# Altium schematic symbol library carrot_lib.SchLib: 285 symbols (part 3 of 4)
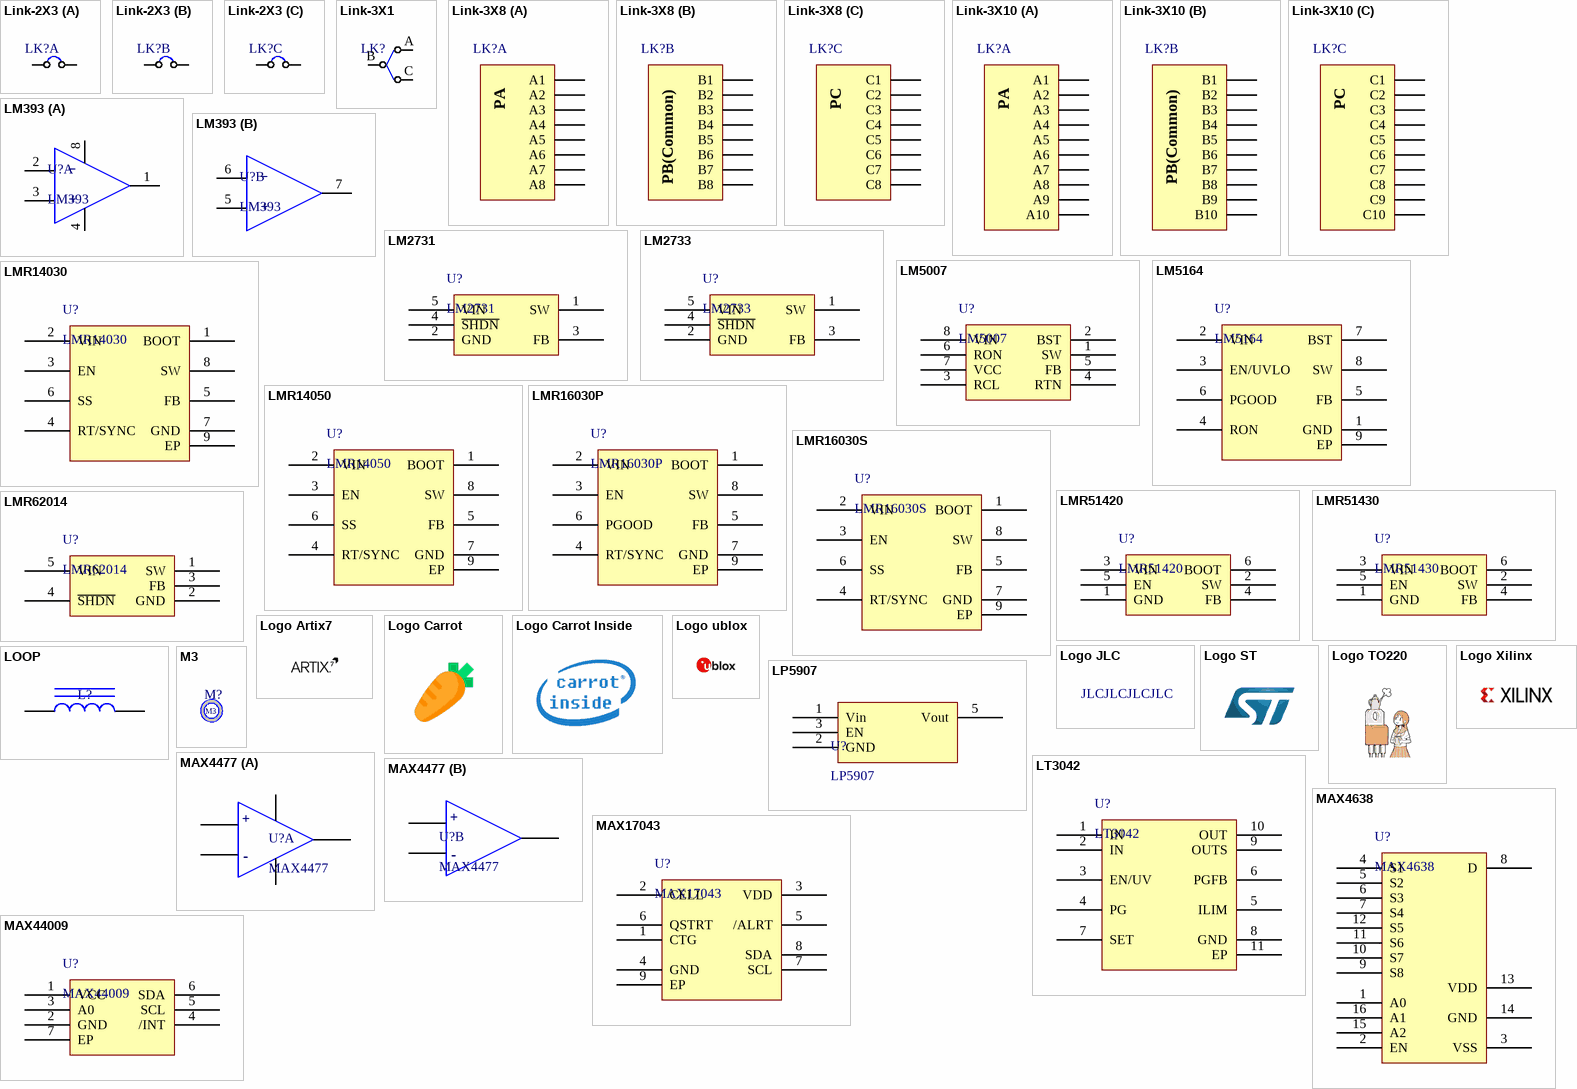
[diagram p16: symbols Link-2X3 to MAX44009]

## LMR51420
designator U?
LMR51420 SIMPLE SWITCHER® Power Converter 4.5-V to 36-V, 2-A, Synchronous Buck Converter in a SOT-23 Package
footprint LMR51420-SOT23-6 (SOT23, 6-Leads, Body 2.90x2.80mm, Pitch 0.95mm, IPC Medium Density)
pins: 1 GND "Ground pin Source terminal of low-side power NFET as well as the ground terminal for controller circuit.", 2 SW "Switch node connection between high-side NFET and low-side NFET.", 3 VIN "Input voltage supply pin. The drain terminal of high-side power NFET.", 4 FB "Converter feedback input. Connect to output voltage with feedback resistor divider.", 5 EN "Enable input control. Active high and must be pulled up to enable the device.", 6 BOOT "Supply input for the high-side NFET gate drive circuit. Connect a 0.1μF capacitor between VBST and SW pins."

## LMR51430
designator U?
LMR51430 SIMPLE SWITCHER® Power Converter 4.5-V to 36-V, 3-A, Synchronous Buck Converter in a SOT-23 Package
footprint LMR51430-SOT23-6 (SOT23, 6-Leads, Body 2.90x2.80mm, Pitch 0.95mm, IPC Medium Density)
pins: 1 GND "Ground pin Source terminal of low-side power NFET as well as the ground terminal for controller circuit.", 2 SW "Switch node connection between high-side NFET and low-side NFET.", 3 VIN "Input voltage supply pin. The drain terminal of high-side power NFET.", 4 FB "Converter feedback input. Connect to output voltage with feedback resistor divider.", 5 EN "Enable input control. Active high and must be pulled up to enable the device.", 6 BOOT "Supply input for the high-side NFET gate drive circuit. Connect a 0.1μF capacitor between VBST and SW pins."

## LMR62014
designator U?
LMR62014 SIMPLE SWITCHER® 20Vout, 1.4A Step-Up Voltage Regulator in SOT-23
footprint LMR62014-SOT23-5 (SOT23, 5-Leads, Body 2.90x2.80mm, Pitch 0.95mm, IPC Medium Density)
pins: 1 SW "Connect the inductor and the Schottky diode to this pin.", 2 GND "Ground", 3 FB "This is the feedback pin of the device.", 4 ~{SHDN} "This is the enable pin of the device.", 5 VIN "Supply voltage pin."

## Logo Artix7
designator LOGO?
footprint LOGO-ARTIX7

## Logo Carrot
designator LOGO?
footprint LOGO-CARROT

## Logo Carrot Inside
designator LOGO?
footprint LOGO-carrot-inside

## Logo JLC
designator LOGO?, comment JLC  (value not drawn)
footprint LOGO-JLC
text: JLCJLCJLCJLC

## Logo ST
designator LOGO?
footprint LOGO-ST

## Logo TO220
designator LOGO?
footprint LOGO-TO220

## Logo ublox
designator LOGO?
footprint LOGO-ublox

## Logo Xilinx
designator LOGO?
footprint LOGO-XILINX

## LOOP
designator L?
footprint LOOP_7X17
pins: 1, 2

## LP5907
designator U?
LP5907 250-mA, Ultra-Low-Noise, Low-IQ LDO
footprint LP5907-SOT-23-5 (SOT23, 5-Leads, Body 2.90x2.80mm, Pitch 0.95mm, IPC Medium Density)
pins: 1 Vin, 2 GND, 3 EN, 5 Vout

## LT3042
designator U?
20V, 200mA, Ultralow Noise,Ultrahigh PSRR RF Linear Regulator
footprint LT3042-MSOP10 (TSSOP, 10-Leads, Body 3.00x3.00mm, Pitch 0.50mm, Thermal Pad 1.88x1.68mm, IPC Medium Density)
pins: 1 IN "Input.", 2 IN "Input.", 3 EN/UV "Enable/UVLO.", 4 PG "Power Good.", 5 ILIM "Current Limit Programming Pin.", 6 PGFB "Power Good Feedback.", 7 SET "SET.", 8 GND "Ground.", 9 OUTS "Output Sense.", 10 OUT "Output.", 11 EP "Ground."

## M3
designator M?
footprint M3-3.2X5

## MAX4477
designator U?
Low-Noise, Low-Distortion, Wide-Band, Rail-to-Rail Op Amps
footprint MAX4477-SOIC8 (SOIC, 8-Leads, Body 4.90x3.90mm, Pitch 1.27mm, IPC Medium Density)
part A pins: 1 OUT A, 2 -IN A, 3 +IN A, 4 V-, 8 V+
part B pins: 5 +IN B, 6 -IN B, 7 OUT B
part A text: +; -
part B text: +; -

## MAX4638
designator U?
3.5Ω, Single 8:1 and Dual 4:1, Low-Voltage Analog Multiplexers
footprint MAX4638-TSSOP16 (TSOP, 16-Leads, Body 5.00x4.40mm, Pitch 0.65mm, IPC Medium Density)
pins: 1 A0 "Digital Input. Controls the configuration of the switch", 2 EN "Digital Input. Controls the configuration of the switch", 3 VSS "Most Negative Power Supply Pin in Dual-Supply Applications.", 4 S1 "Source Terminal.", 5 S2 "Source Terminal.", 6 S3 "Source Terminal.", 7 S4 "Source Terminal.", 8 D "Drain Terminal.", 9 S8 "Source Terminal.", 10 S7 "Source Terminal.", 11 S6 "Source Terminal.", 12 S5 "Source Terminal.", 13 VDD "Most Positive Power Supply Pin.", 14 GND "Ground (0 V) Reference.", 15 A2 "Digital Input.", 16 A1 "Digital Input."

## MAX17043
designator U?
1-Cell/2-Cell Fuel Gauge with ModelGauge and Low-Battery Alert
footprint MAX17043-TDFN8 (PSON, 8-Leads, Body 2.00x3.00mm, Pitch 0.50mm, Thermal Pad 1.63x1.64mm, IPC Medium Density)
pins: 1 CTG "Connect to Ground. Connect to VSS during normal operation.", 2 CELL "Battery Voltage Input. The voltage of the cell pack is measured through this pin.", 3 VDD "Power-Supply Input. 2.5V to 4.5V input range. Connect to system power through a decoupling network. Connect a 10nF typical decoupling capacitor close to pin.", 4 GND "Ground. Connect to the negative power rail of the system.", 5 /ALRT "Alert Output. Active-low interrupt signaling low state of charge. Connect to interrupt input of the system microprocessor.", 6 QSTRT "Quick-Start Input. Allows reset of the device through hardware. Connect to GND if not used.", 7 SCL "Serial Clock Input. Input only 2-wire clock line. Connect this pin to the CLOCK signal of the 2-wire interface. This pin has a 0.2µA typical pulldown to sense disconnection.", 8 SDA "Serial Data Input/Output. Open-drain 2-wire data line. Connect this pin to the DATA signal of the 2-wire interface. This pin has a 0.2µA typical pulldown to sense disconnection.", 9 EP "Exposed Pad (TDFN only). Connect to ground."

## MAX44009
designator U?
Industry’s Lowest-Power Ambient Light Sensor with ADC
footprint MAX44009-UTDFN6 (QFN, 6-Leads, Body 2.00x2.00mm, Pitch 0.65mm, Thermal Pad 0.65x1.35mm, IPC Medium Density)
pins: 1 VCC "Power Supply", 2 GND "Ground", 3 A0 "Address Select", 4 /INT "Interrupt Output. Use an external pullup resistor.", 5 SCL "I2C Clock Bus", 6 SDA "I2C Data Bus", 7 EP "Exposed Pad. Connect EP to ground."

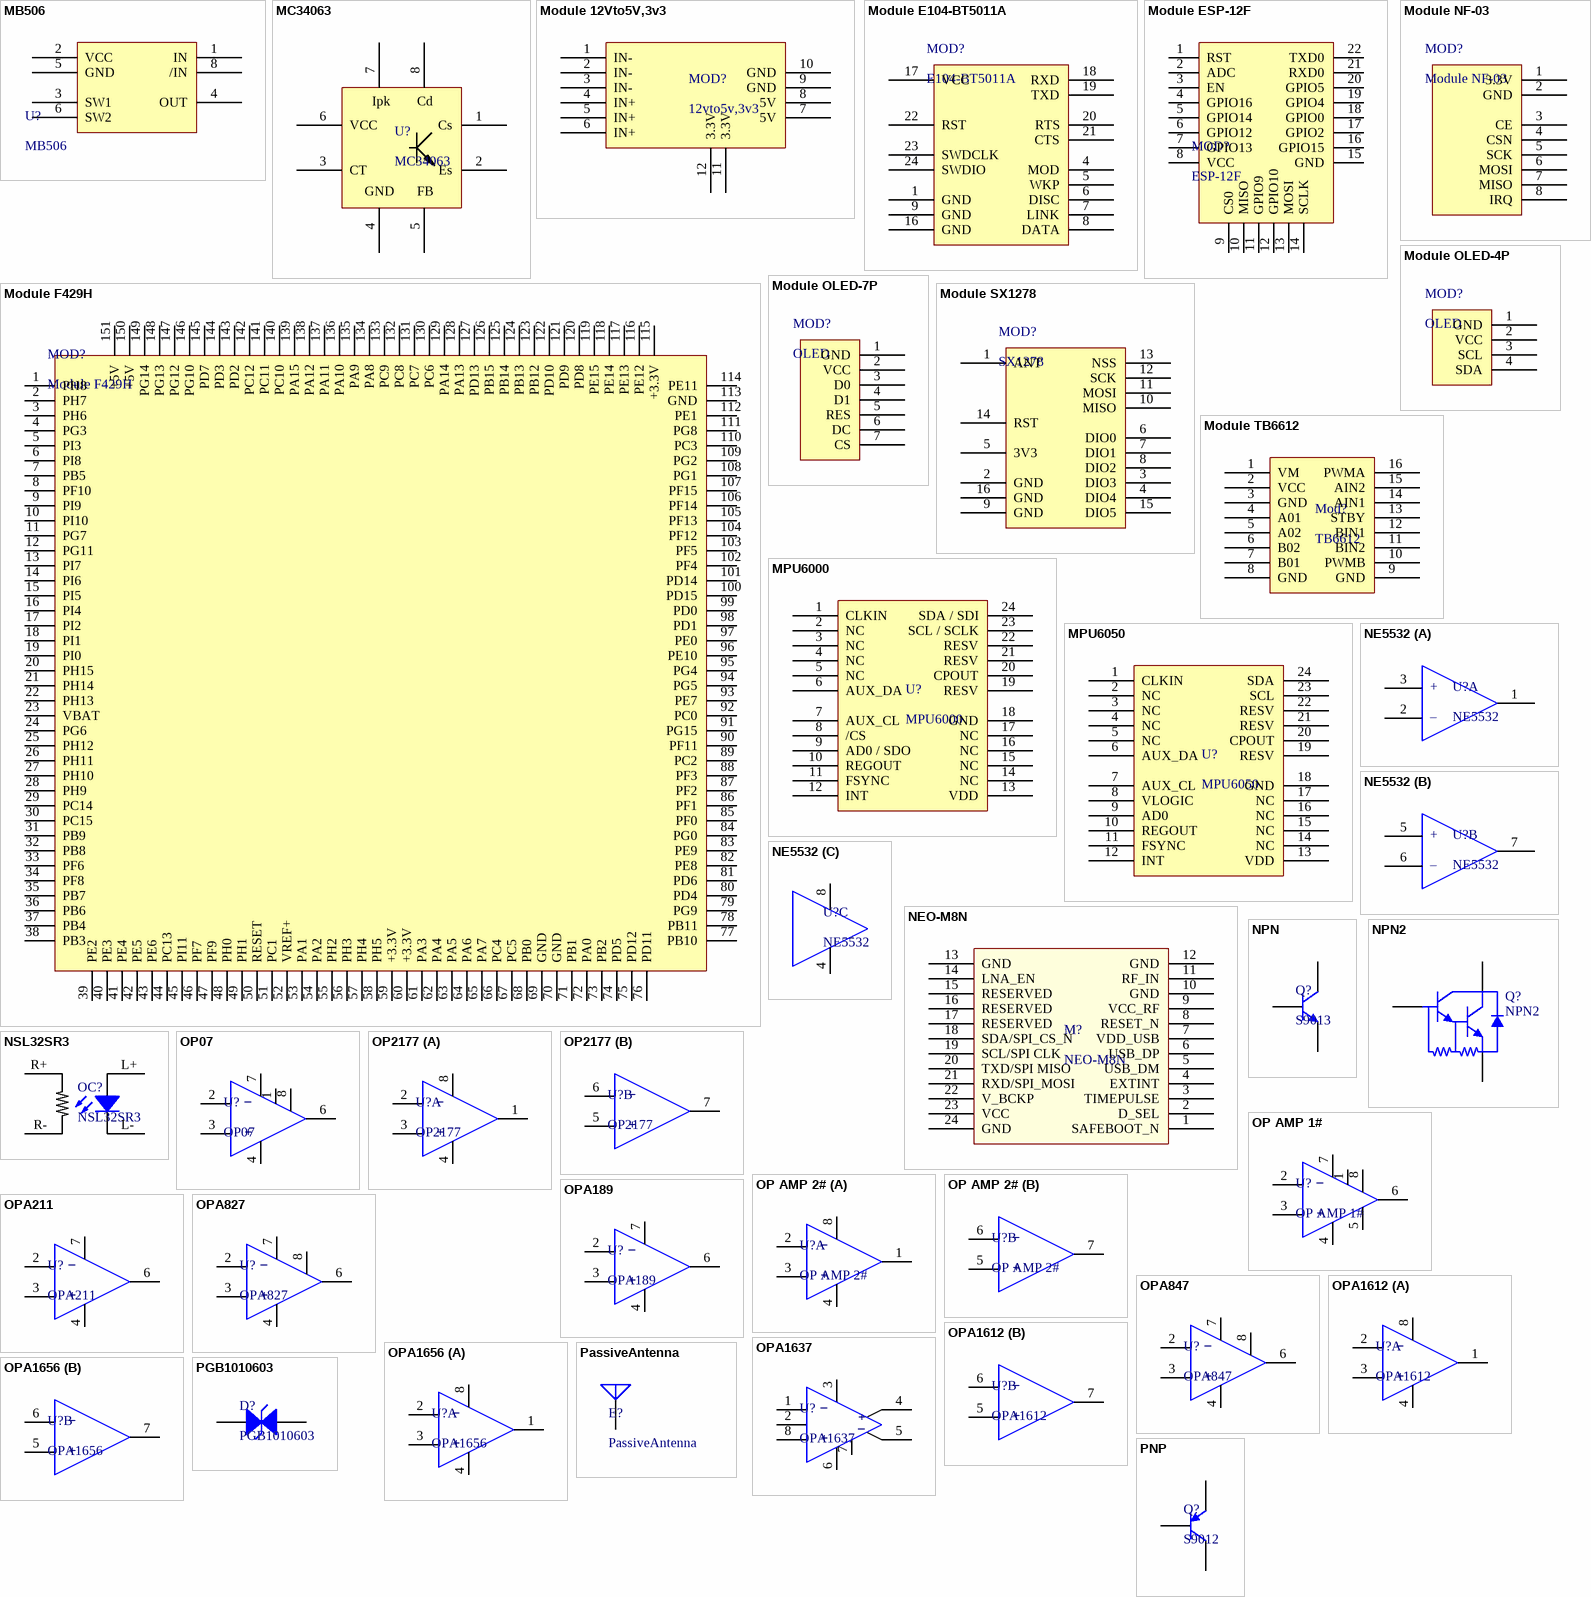
[diagram p9: symbols MB506 to PNP]

## MB506
designator U?
ULTRA HIGH FREQUENCY PRESCALER
footprint MB506-SOIC (SOIC, 8-Leads, Body 6.32x5.30mm, Pitch 1.27mm, IPC Medium Density)
pins: 1 IN, 2 VCC, 3 SW1, 4 OUT, 5 GND, 6 SW2, 8 /IN

## MC34063
designator U?
1.5A 峰值升压/降压/反向开关稳压器
footprint MC34063-DIP8
footprint MC34063-SOIC8 (SOP, 8-Leads, Body 4.90x3.90mm, Pitch 1.27mm, IPC Medium Density)
pins: 1 Cs, 2 Es, 3 CT, 4 GND, 5 FB, 6 VCC, 7 Ipk, 8 Cd

## Module 12Vto5V,3v3
designator MOD?, comment 12vto5v,3v3
Module 12Vto5V,3v3
footprint Module 12vto5v,3v3
pins: 1 IN-, 2 IN-, 3 IN-, 4 IN+, 5 IN+, 6 IN+, 7 5V, 8 5V, 9 GND, 10 GND, 11 3.3V, 12 3.3V

## Module E104-BT5011A
designator MOD?, comment E104-BT5011A
E104-BT5011A 是一款基于蓝牙协议 5.1 版本的串口转 BLE 蓝牙主从一体模块，体积小、功耗低，工作在 2.4GHz 频段。
footprint MODULE E104-BT5011A
footprint MODULE E104-BT5011A+
pins: 1 GND, 4 MOD, 5 WKP, 6 DISC, 7 LINK, 8 DATA, 9 GND, 16 GND, 17 VCC, 18 RXD, 19 TXD, 20 RTS, 21 CTS, 22 RST, 23 SWDCLK, 24 SWDIO

## Module ESP-12F
designator MOD?, comment ESP-12F
ESP8266 WIFI
footprint MODULE ESP-12F
footprint MODULE ESP-12F+
pins: 1 RST, 2 ADC, 3 EN, 4 GPIO16, 5 GPIO14, 6 GPIO12, 7 GPIO13, 8 VCC, 9 CS0, 10 MISO, 11 GPIO9, 12 GPIO10, 13 MOSI, 14 SCLK, 15 GND, 16 GPIO15, 17 GPIO2, 18 GPIO0, 19 GPIO4, 20 GPIO5, 21 RXD0, 22 TXD0

## Module F429H
designator MOD?
F429核心板 YuYou
footprint Module F429-H-DIP
footprint Module F429-H-DSMT
footprint Module F429-H-SMT
pins: 1 PH8, 2 PH7, 3 PH6, 4 PG3, 5 PI3, 6 PI8, 7 PB5, 8 PF10, 9 PI9, 10 PI10, 11 PG7, 12 PG11, 13 PI7, 14 PI6, 15 PI5, 16 PI4, 17 PI2, 18 PI1, 19 PI0, 20 PH15, 21 PH14, 22 PH13, 23 VBAT, 24 PG6, 25 PH12, 26 PH11, 27 PH10, 28 PH9, 29 PC14, 30 PC15, 31 PB9, 32 PB8, 33 PF6, 34 PF8, 35 PB7, 36 PB6, 37 PB4, 38 PB3, 39 PE2, 40 PE3, 41 PE4, 42 PE5, 43 PE6, 44 PC13, 45 PI11, 46 PF7, 47 PF9, 48 PH0, 49 PH1, 50 RESET, 51 PC1, 52 VREF+, 53 PA1, 54 PA2, 55 PH2, 56 PH3, 57 PH4, 58 PH5, 59 +3.3V, 60 +3.3V, 61 PA3, 62 PA4, 63 PA5, 64 PA6, 65 PA7, 66 PC4, 67 PC5, 68 PB0, 69 GND, 70 GND, 71 PB1, 72 PA0, 73 PB2, 74 PD5, 75 PD12, 76 PD11, 77 PB10, 78 PB11, 79 PG9, 80 PD4, 81 PD6, 82 PE8, 83 PE9, 84 PG0, 85 PF0, 86 PF1, 87 PF2, 88 PF3, 89 PC2, 90 PF11, 91 PG15, 92 PC0, 93 PE7, 94 PG5, 95 PG4, 96 PE10, 97 PE0, 98 PD1, 99 PD0, 100 PD15, 101 PD14, 102 PF4, 103 PF5, 104 PF12, 105 PF13, 106 PF14, 107 PF15, 108 PG1, 109 PG2, 110 PC3, 111 PG8, 112 PE1, 113 GND, 114 PE11, 115 +3.3V, 116 PE12, 117 PE13, 118 PE14, 119 PE15, 120 PD8, 121 PD9, 122 PD10, 123 PB12, 124 PB13, 125 PB14, 126 PB15, 127 PD13, 128 PA13, 129 PA14, 130 PC6, 131 PC7, 132 PC8, 133 PC9, 134 PA8, 135 PA9, 136 PA10, 137 PA11, 138 PA12, 139 PA15, 140 PC10, 141 PC11, 142 PC12, 143 PD2, 144 PD3, 145 PD7, 146 PG10, 147 PG12, 148 PG13, 149 PG14, 150 +5V, 151 +5V

## Module NF-03
designator MOD?
Si24R1 2.4GHz
footprint MODULE NF-03
pins: 1 3.3V, 2 GND, 3 CE, 4 CSN, 5 SCK, 6 MOSI, 7 MISO, 8 IRQ

## Module OLED-4P
designator MOD?, comment OLED
OLED显示模块
footprint MODULE OLED-4P-0.96 (0.96寸4脚OLED模块)
pins: 1 GND, 2 VCC, 3 SCL, 4 SDA

## Module OLED-7P
designator MOD?, comment OLED
OLED显示模块
footprint MODULE OLED-7P-0.96 (0.96寸7脚OLED模块)
footprint MODULE OLED-7P-0.96-HDR (0.96寸7脚OLED模块)
pins: 1 GND, 2 VCC, 3 D0, 4 D1, 5 RES, 6 DC, 7 CS

## Module SX1278
designator MOD?, comment SX1278
SX1278 LoRa
footprint MODULE SX1278
pins: 1 ANT, 2 GND, 3 DIO3, 4 DIO4, 5 3V3, 6 DIO0, 7 DIO1, 8 DIO2, 9 GND, 10 MISO, 11 MOSI, 12 SCK, 13 NSS, 14 RST, 15 DIO5, 16 GND

## Module TB6612
designator Mod?, comment TB6612
A driver IC for DC motor with output transistor in LD MOS structure with low ON-resistor.
footprint Module TB6612 (A driver IC for DC motor with output transistor in LD MOS structure with low ON-resistor.)
pins: 1 VM, 2 VCC, 3 GND, 4 A01, 5 A02, 6 B02, 7 B01, 8 GND, 9 GND, 10 PWMB, 11 BIN2, 12 BIN1, 13 STBY, 14 AIN1, 15 AIN2, 16 PWMA

## MPU6000
designator U?
footprint MPU60X0-QFN24 (QFN, 24-Leads, Body 4.00x4.00mm, Pitch 0.50mm, Thermal Pad 2.60x2.60mm, IPC Medium Density)
pins: 1 CLKIN "Optional external reference clock input. Connect to GND if unused.", 2 NC "Not internally connected. May be used for PCB trace routing.", 3 NC "Not internally connected. May be used for PCB trace routing.", 4 NC "Not internally connected. May be used for PCB trace routing.", 5 NC "Not internally connected. May be used for PCB trace routing.", 6 AUX_DA "I2C master serial data, for connecting to external sensors", 7 AUX_CL "I2C Master serial clock, for connecting to external sensors", 8 /CS "SPI chip select (0=SPI mode)", 9 AD0 / SDO "I2C Slave Address LSB (AD0); SPI serial data output (SDO)", 10 REGOUT "Regulator filter capacitor connection", 11 FSYNC "Frame synchronization digital input. Connect to GND if unused.", 12 INT "Interrupt digital output (totem pole or open-drain)", 13 VDD "Power supply voltage and Digital I/O supply voltage", 14 NC "Not internally connected. May be used for PCB trace routing.", 15 NC "Not internally connected. May be used for PCB trace routing.", 16 NC "Not internally connected. May be used for PCB trace routing.", 17 NC "Not internally connected. May be used for PCB trace routing.", 18 GND "Power supply ground", 19 RESV "Reserved. Do not connect.", 20 CPOUT "Charge pump capacitor connection", 21 RESV "Reserved. Do not connect.", 22 RESV "Reserved. Do not connect.", 23 SCL / SCLK "I2C serial clock (SCL); SPI serial clock (SCLK)", 24 SDA / SDI "I2C serial data (SDA); SPI serial data input (SDI)"

## MPU6050
designator U?
footprint MPU60X0-QFN24 (QFN, 24-Leads, Body 4.00x4.00mm, Pitch 0.50mm, Thermal Pad 2.60x2.60mm, IPC Medium Density)
pins: 1 CLKIN "Optional external reference clock input. Connect to GND if unused.", 2 NC "Not internally connected. May be used for PCB trace routing.", 3 NC "Not internally connected. May be used for PCB trace routing.", 4 NC "Not internally connected. May be used for PCB trace routing.", 5 NC "Not internally connected. May be used for PCB trace routing.", 6 AUX_DA "I2C master serial data, for connecting to external sensors", 7 AUX_CL "I2C Master serial clock, for connecting to external sensors", 8 VLOGIC "Digital I/O supply voltage", 9 AD0 "I2C Slave Address LSB (AD0)", 10 REGOUT "Regulator filter capacitor connection", 11 FSYNC "Frame synchronization digital input. Connect to GND if unused.", 12 INT "Interrupt digital output (totem pole or open-drain)", 13 VDD "Power supply voltage and Digital I/O supply voltage", 14 NC "Not internally connected. May be used for PCB trace routing.", 15 NC "Not internally connected. May be used for PCB trace routing.", 16 NC "Not internally connected. May be used for PCB trace routing.", 17 NC "Not internally connected. May be used for PCB trace routing.", 18 GND "Power supply ground", 19 RESV "Reserved. Do not connect.", 20 CPOUT "Charge pump capacitor connection", 21 RESV "Reserved. Do not connect.", 22 RESV "Reserved. Do not connect.", 23 SCL "I2C serial clock (SCL)", 24 SDA "I2C serial data (SDA)"

## NE5532
designator U?
NE5532x, SA5532x Dual Low-Noise Operational Amplifiers
footprint NE5532-SOIC8 (SOIC, 8-Leads, Body 4.90x3.90mm, Pitch 1.27mm, IPC Medium Density)
part A pins: 1 OUT A, 2 -IN A, 3 +IN A
part B pins: 5 +IN B, 6 -IN B, 7 OUT B
part C pins: 4 V-, 8 V+
part A text: +; –
part B text: +; –

## NEO-M8N
designator M?
footprint NEO-M8N (u-blox NEO GNSS module)
pins: 1 SAFEBOOT_N, 2 D_SEL, 3 TIMEPULSE, 4 EXTINT, 5 USB_DM, 6 USB_DP, 7 VDD_USB, 8 RESET_N, 9 VCC_RF, 10 GND, 11 RF_IN, 12 GND, 13 GND, 14 LNA_EN, 15 RESERVED, 16 RESERVED, 17 RESERVED, 18 SDA/SPI_CS_N, 19 SCL/SPI CLK, 20 TXD/SPI MISO, 21 RXD/SPI_MOSI, 22 V_BCKP, 23 VCC, 24 GND

## NPN
designator Q?, comment S9013
NPN General Purpose Amplifier
footprint SOT-23 (SOT23, 3-Leads, Body 2.9x1.3mm, Pitch 0.95mm, Lead Span 2.5mm, IPC High Density)
footprint TO-92 (TO, Flat Index; 3 In-Line, Axial Leads; Body Dia. 4.5mm; Leads 0.51 x 0.48 mm (max))
footprint NPN-TO92-EBC (TO, Flat Index; 3 In-Line, Axial Leads; Body Dia. 4.5mm; Leads 0.51 x 0.48 mm (max))
footprint NPN-TO92-CBE (TO, Flat Index; 3 In-Line, Axial Leads; Body Dia. 4.5mm; Leads 0.51 x 0.48 mm (max))
pins: B, C, E

## NPN2
designator Q?
NPN Darlington Bipolar Transistor
footprint NPN-TO-252-BCE (TO-252/DPAK)
pins: B, C, E

## NSL32SR3
designator OC?
This optocoupler, NSL-32SR3, consists of an LED input optically coupled to a photocell. The photocell resistance is high when the LED current is “off” and low resistance when the LED current is “on”.
footprint NSL32SR3
pins: L+, L-, R+, R-

## OP07
designator U?
footprint DIP8-300mil (DIP8,W=300mil)
footprint OP07-SOIC8 (SOIC, 8-Leads, Body 4.90x3.90mm, Pitch 1.27mm, IPC Medium Density)
pins: 1 OFFSET NULL, 2 -IN, 3 +IN, 4 -Vs, 6 OUTPUT, 7 +Vs, 8 OFFSET NULL
text: –; +

## OP2177
designator U?
Precision Low Noise, Low Input Bias Current Operational Amplifiers
footprint OP2177-SOIC8 (SOIC, 8-Leads, Body 4.90x3.90mm, Pitch 1.27mm, IPC Medium Density)
part A pins: 1 OUT A, 2 -IN A, 3 +IN A, 4 -Vs, 8 +Vs
part B pins: 5 +IN B, 6 -IN B, 7 OUT B
part A text: –; +
part B text: –; +

## OP AMP 1#
designator U?
Universal Operational Amplifiers.
footprint OPAMP-SOIC8 (SOIC, 8-Leads, Body 4.90x3.90mm, Pitch 1.27mm, IPC Medium Density)
pins: 1 OFFSET NULL, 2 -IN, 3 +IN, 4 -Vs, 5 NC, 6 OUTPUT, 7 +Vs, 8 OFFSET NULL
text: –; +

## OP AMP 2#
designator U?
Universal Operational Amplifiers.
footprint OPAMP-SOIC8 (SOIC, 8-Leads, Body 4.90x3.90mm, Pitch 1.27mm, IPC Medium Density)
part A pins: 1 OUT A, 2 -IN A, 3 +IN A, 4 -Vs, 8 +Vs
part B pins: 5 +IN B, 6 -IN B, 7 OUT B
part A text: –; +
part B text: –; +

## OPA189
designator U?
OPAx189 Precision, Lowest-Noise, 36-V, Zero-Drift, 14-MHz, MUX-Friendly, Rail-to-Rail Output Operational Amplifiers
footprint OPA189-SOIC8 (SOIC, 8-Leads, Body 4.91x3.90mm, Pitch 1.27mm, IPC Medium Density)
pins: 2 -IN, 3 +IN, 4 -Vs, 6 OUTPUT, 7 +Vs
text: –; +

## OPA211
designator U?
OPAx211 1.1-nv/√Hz Noise, Low Power, Precision Operational Amplifiers
footprint OPA211-SOIC8 (SOIC, 8-Leads, Body 4.91x3.90mm, Pitch 1.27mm, IPC Medium Density)
pins: 2 -IN, 3 +IN, 4 -Vs, 6 OUTPUT, 7 +Vs
text: –; +

## OPA827
designator U?
OPA827 Low-Noise, High-Precision, JFET-Input Operational Amplifier
footprint OPA827-SOIC8 (SOIC, 8-Leads, Body 4.91x3.90mm, Pitch 1.27mm, IPC Medium Density)
pins: 2 -IN, 3 +IN, 4 -Vs, 6 OUTPUT, 7 +Vs, 8 ~{DIS}
text: –; +

## OPA847
designator U?
Wideband, Ultra-Low Noise, Voltage-Feedback OPERATIONAL AMPLIFIER with Shutdown
footprint OPA847-SOIC8 (SOIC, 8-Leads, Body 4.91x3.90mm, Pitch 1.27mm, IPC Medium Density)
pins: 2 -IN, 3 +IN, 4 -Vs, 6 OUTPUT, 7 +Vs, 8 ~{DIS}
text: –; +

## OPA1612
designator U?
OPA161x SoundPlus™ High-Performance, Bipolar-Input Audio Operational Amplifiers
footprint OPA1612-SOIC8 (SOIC, 8-Leads, Body 4.90x3.90mm, Pitch 1.27mm, IPC Medium Density)
part A pins: 1 OUT A, 2 -IN A, 3 +IN A, 4 -Vs, 8 +Vs
part B pins: 5 +IN B, 6 -IN B, 7 OUT B
part A text: –; +
part B text: –; +

## OPA1637
designator U?
OPA1637 High-Fidelity, Low-Noise, Fully-Differential, Burr-Brown™ Audio Operational Amplifier
footprint OPA1637-VSSOP8 (TSOP, 8-Leads, Body 3.00x3.00mm, Pitch 0.65mm, IPC Medium Density)
pins: 1 -IN "Inverting (negative) amplifier input", 2 VOCM "Ouput common-mode voltage control input", 3 +Vs "Positive power-supply input", 4 OUT+ "Noninverting (positive) amplifier output", 5 OUT- "Inverting (negative) amplifier output", 6 -Vs "Negative power-supply input", 7 ~{PD} "Power down.", 8 +IN "Noninverting (positive) amplifier input"
text: –; +

## OPA1656
designator U?
OPA165x Ultra-Low-Noise, Low-Distortion, FET-Input, Burr-Brown™ Audio Operational Amplifiers
footprint OPA1656-SOIC8 (SOIC, 8-Leads, Body 4.90x3.90mm, Pitch 1.27mm, IPC Medium Density)
part A pins: 1 OUT A, 2 -IN A, 3 +IN A, 4 -Vs, 8 +Vs
part B pins: 5 +IN B, 6 -IN B, 7 OUT B
part A text: –; +
part B text: –; +

## PassiveAntenna
designator E?
无源天线25x25
footprint PassiveAntenna25x25 (无源天线25x25)
pins: 1

## PGB1010603
designator D?
Surface Mount Polymeric Electrostatic Discharge Suppressors
footprint PGB1010603-0603 (Chip Diode, 2-Leads, Body 1.66x0.84mm, IPC Medium Density)
pins: 1, 2

## PNP
designator Q?, comment S9012
PNP General Purpose Amplifier
footprint SOT-23 (SOT23, 3-Leads, Body 2.9x1.3mm, Pitch 0.95mm, Lead Span 2.5mm, IPC High Density)
pins: B, C, E

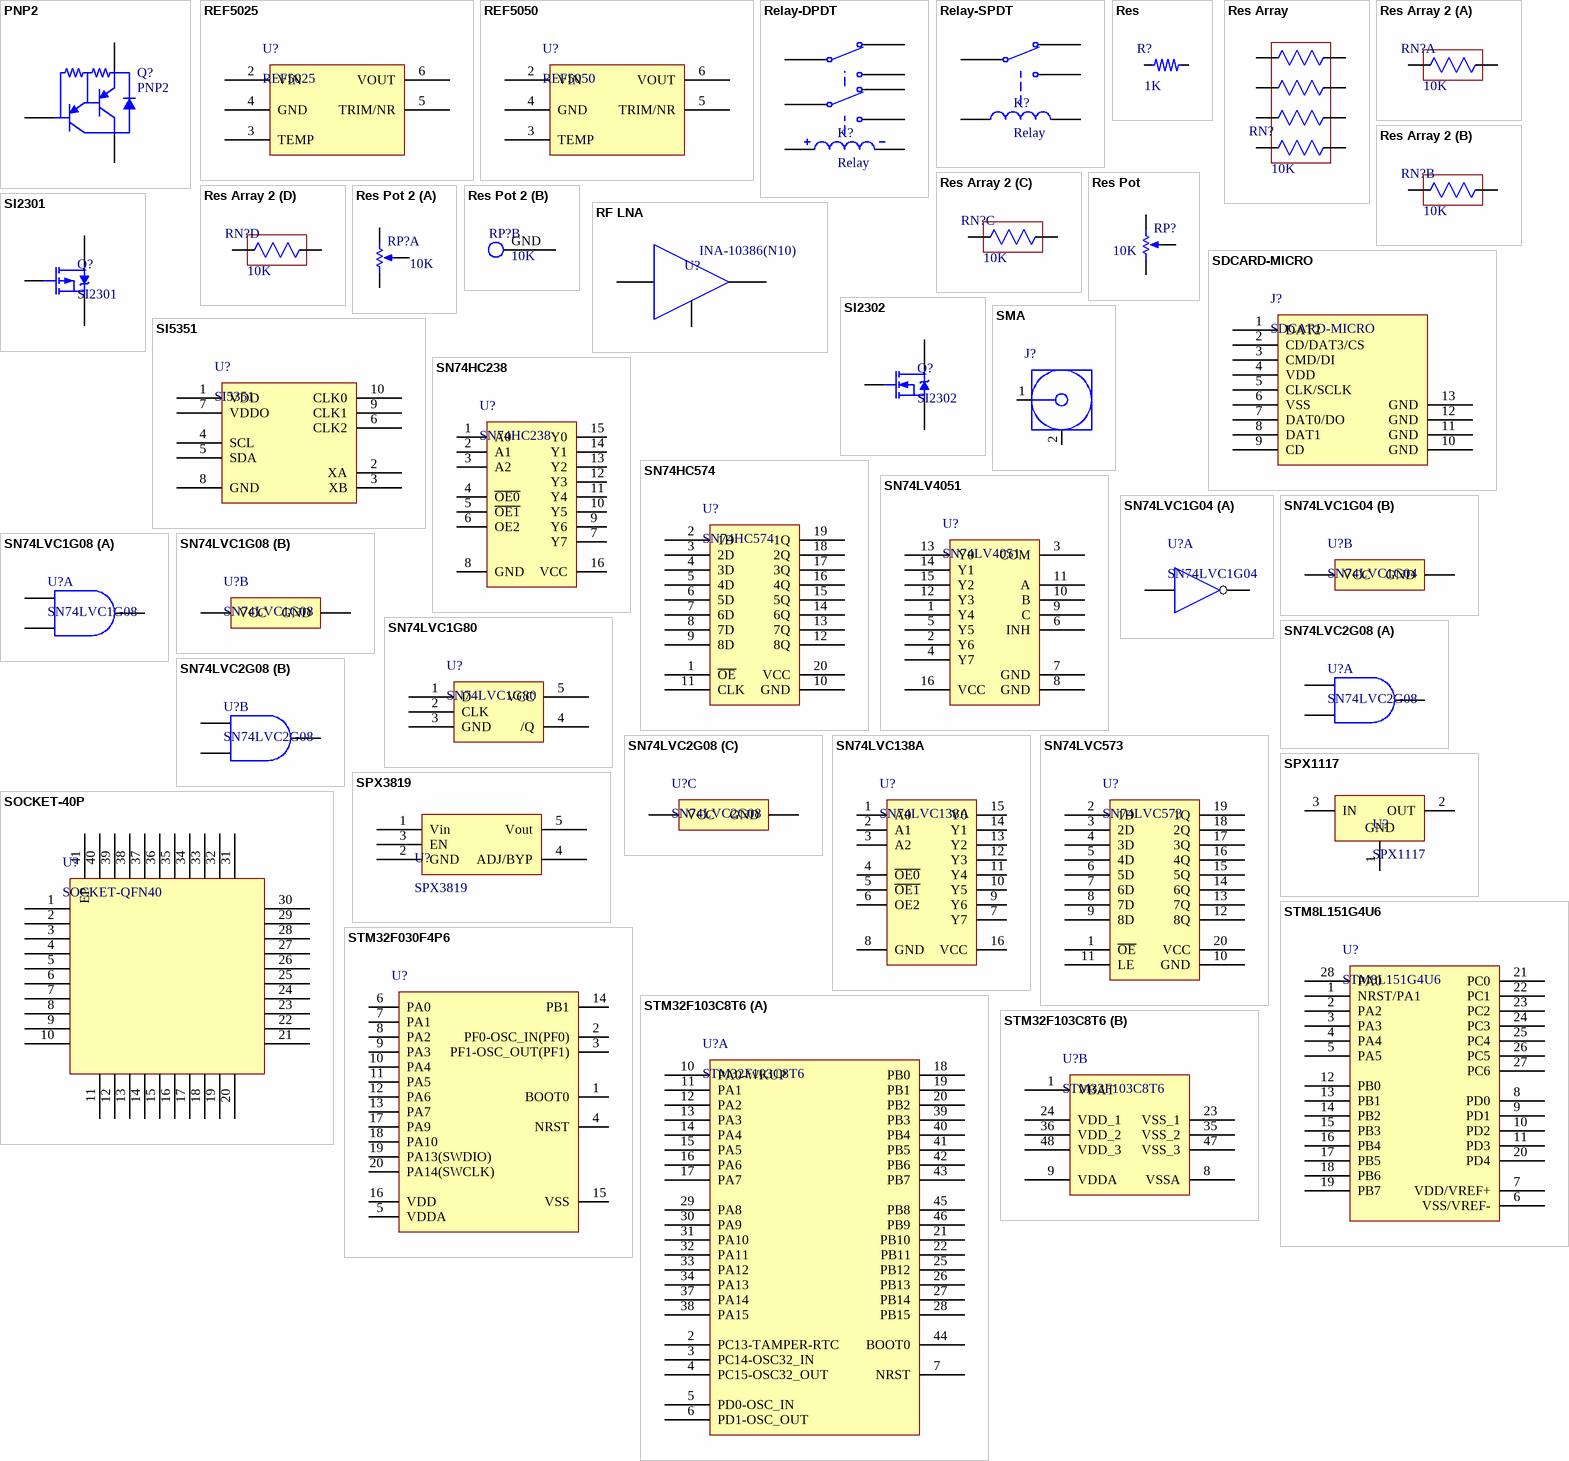
[diagram p10: symbols PNP2 to STM32F103C8T6]

## PNP2
designator Q?
PNP Darlington Bipolar Transistor
footprint PNP-TO-252-BCE (TO-252/DPAK)
pins: B, C, E

## REF5025
designator U?
Low-Noise, Very Low Drift, Precision Voltage Reference
footprint REF5025-SOIC-8 (SOIC, 8-Leads, Body 4.90x3.90mm, Pitch 1.27mm, IPC Medium Density)
pins: 2 VIN "Input supply voltage", 3 TEMP "Temperature monitoring pin. Provides a temperature-dependent output voltage", 4 GND "Ground", 5 TRIM/NR "Output adjustment and noise reduction pin", 6 VOUT "Reference voltage output"

## REF5050
designator U?
Low-Noise, Very Low Drift, Precision Voltage Reference
footprint REF5050-SOIC-8 (SOIC, 8-Leads, Body 4.90x3.90mm, Pitch 1.27mm, IPC Medium Density)
pins: 2 VIN "Input supply voltage", 3 TEMP "Temperature monitoring pin. Provides a temperature-dependent output voltage", 4 GND "Ground", 5 TRIM/NR "Output adjustment and noise reduction pin", 6 VOUT "Reference voltage output"

## Relay-DPDT
designator K?, comment Relay
Dual-Pole Dual-Throw Relay
footprint RELAY-G6K-2F-Y (Omron G6K表面安装继电器)
pins: 1, 2, 3, 4, 5, 6, 7, 8

## Relay-SPDT
designator K?, comment Relay
Single-Pole Dual-Throw Relay
footprint RELAY-HK4100F
pins: 1, 2, 3, 4, 5

## Res
designator R?  value 1K  (hidden comment: Res)
电阻
footprint R0201 (Chip Resistor, 2-Leads, Body 0.60x0.30mm, IPC Medium Density)
footprint R0402 (Chip Resistor, 2-Leads, Body 1.00x0.50mm, IPC Medium Density)
footprint R0603 (Chip Resistor, 2-Leads, Body 1.60x0.80mm, IPC Medium Density)
footprint R0805 (Chip Resistor, 2-Leads, Body 2.00x1.25mm, IPC Medium Density)
footprint R1206 (Chip Resistor, 2-Leads, Body 3.20x1.60mm, IPC Medium Density)
footprint R1210 (Chip Resistor, 2-Leads, Body 3.20x2.50mm, IPC Medium Density)
footprint R1812 (Chip Resistor, 2-Leads, Body 4.50x3.20mm, IPC Medium Density)
footprint R2010 (Chip Resistor, 2-Leads, Body 5.00x2.50mm, IPC Medium Density)
footprint R2512 (Chip Resistor, 2-Leads, Body 6.40x3.20mm, IPC Medium Density)
pins: 1, 2

## Res Array
designator RN?  value 10K  (hidden comment: Res Array)
贴片排阻
footprint RA0603 (Res Array, Chip Array, ConvexS, 8-Leads, Pitch 0.80mm,  Body 3.20x1.60mm,  IPC Low Density)
pins: 1, 2, 3, 4, 5, 6, 7, 8

## Res Array 2
designator RN?, comment value 10K  (hidden comment: Res Array)
贴片排阻
footprint RA0603 (Res Array, Chip Array, ConvexS, 8-Leads, Pitch 0.80mm,  Body 3.20x1.60mm,  IPC Low Density)
part A pins: 1, 8
part B pins: 2, 7
part C pins: 3, 6
part D pins: 4, 5

## Res Pot
designator RP?  value 10K
电位器
footprint RP-3296W (3296W 多圈精密电位器)
footprint RP-GEAR-16*2
footprint RP-3362P (3362P 单圈精密电位器)
footprint RP-3266W (3266W 多圈精密电位器)
footprint RP-3590S-2 (Bourns, 3590S-2)
pins: 1 TOP, 2 TAP, 3 BOT

## Res Pot 2
designator RP?  value 10K
电位器
footprint RP-RV0932
part A pins: 1 TOP, 2 TAP, 3 BOT
part B pins: 4 GND

## RF LNA
designator U?  value INA-10386(N10)  (hidden comment: RF LNA)
MMIC
footprint SOT-86 (MMIC RF LNA)
pins: 1 IN, 2 GND, 3 OUT

## SDCARD-MICRO
designator J?
Micro SD卡座
footprint SDCARD-MICRO (Micro SD卡座)
pins: 1 DAT2, 2 CD/DAT3/CS, 3 CMD/DI, 4 VDD, 5 CLK/SCLK, 6 VSS, 7 DAT0/DO, 8 DAT1, 9 CD, 10 GND, 11 GND, 12 GND, 13 GND

## SI2301
designator Q?
P-Channel 20 V (D-S) MOSFET
footprint SI2301-SOT23 (SOT23, 3-Leads, Body 2.92x2.37mm, Pitch 0.95mm, IPC Medium Density)
pins: 1 G, 2 S, 3 D

## SI2302
designator Q?
N-Channel 20 V (D-S) MOSFET
footprint SI2302-SOT23 (SOT23, 3-Leads, Body 2.92x2.37mm, Pitch 0.95mm, IPC Medium Density)
pins: 1 G, 2 S, 3 D

## SI5351
designator U?
I2C-PROGRAMMABLE ANY-FREQUENCY CMOS CLOCK GENERATOR + VCXO.
footprint SI5351-MSOP10 (TSSOP, 10-Leads, Body 3.00x3.00mm, Pitch 0.50mm, IPC Medium Density)
pins: 1 VDD "Core voltage supply pin.", 2 XA "Input pin for external crystal.", 3 XB "Input pin for external crystal.", 4 SCL "Serial clock input for the I2C bus.", 5 SDA "Serial data input for the I2C bus.", 6 CLK2 "Output clock 2.", 7 VDDO "Output voltage supply pin for CLK0, CLK1, and CLK2.", 8 GND "Ground.", 9 CLK1 "Output clock 1.", 10 CLK0 "Output clock 0."

## SMA
designator J?  (value not drawn)
footprint SMA-1
footprint SMA-2
footprint SMA-3
pins: 1 Signal (power) "Signal Pin", 2 GND (power)

## SN74HC238
designator U?
High-Speed CMOS Logic 3- to 8-Line Decoder/Demultiplexer Inverting and Noninverting
footprint SN74HC238PW-TSSOP16 (TSOP, 16-Leads, Body 5.00x4.40mm, Pitch 0.65mm, IPC Medium Density)
pins: 1 A0, 2 A1, 3 A2, 4 ~{OE0}, 5 ~{OE1}, 6 OE2, 7 Y7, 8 GND, 9 Y6, 10 Y5, 11 Y4, 12 Y3, 13 Y2, 14 Y1, 15 Y0, 16 VCC

## SN74HC574
designator U?
Octal Edge-Triggered D-Type Flip-Flops With 3-State Outputs
footprint SN74HC574PW-TSSOP20 (TSOP, 20-Leads, Body 6.50x4.40mm, Pitch 0.65mm, IPC Medium Density)
pins: 1 ~{OE} "Enable Pin", 2 1D "Input", 3 2D "Input", 4 3D "Input", 5 4D "Input", 6 5D "Input", 7 6D "Input", 8 7D "Input", 9 8D "Input", 10 GND "Ground", 11 CLK "Clock", 12 8Q "Output", 13 7Q "Output", 14 6Q "Output", 15 5Q "Output", 16 4Q "Output", 17 3Q "Output", 18 2Q "Output", 19 1Q "Output", 20 VCC "Power Pin"

## SN74LV4051
designator U?
SN74LV4051A 8-Channel Analog Multiplexers and Demultiplexers
footprint SN74LV4051-TSSOP16 (TSOP, 16-Leads, Body 5.00x4.40mm, Pitch 0.65mm, IPC Medium Density)
pins: 1 Y4 "Input/Output to mux", 2 Y6 "Input/Output to mux", 3 COM "Output/Input of mux", 4 Y7 "Input/Output to mux", 5 Y5 "Input/Output to mux", 6 INH "Enables the outputs of the device. Logic low level with turn the outputs on, high level will turn them off.", 7 GND "Ground", 8 GND "Ground", 9 C "Selector line C for outputs", 10 B "Selector line B for outputs", 11 A "Selector line A for outputs", 12 Y3 "Input/Output to mux", 13 Y0 "Input/Output to mux", 14 Y1 "Input/Output to mux", 15 Y2 "Input/Output to mux", 16 VCC "Device power"

## SN74LVC1G04
designator U?
Single Inverter Gate
footprint SN74LVC1G04-SOT-23-5 (SOT23, 5-Leads, Body 2.90x2.80mm, Pitch 0.95mm, IPC Medium Density)
part A pins: 2 A "Input 1A", 4 Y "Output 1Y"
part B pins: 3 GND (power) "Ground Pin", 5 VCC (power) "Power Pin"

## SN74LVC1G08
designator U?
Single 2-Input Positive-AND Gate
footprint SN74LVC1G08DBV-SOT-23-5 (SOT23, 5-Leads, Body 2.90x2.80mm, Pitch 0.95mm, IPC Medium Density)
part A pins: 1 A, 2 B, 4 Y
part B pins: 3 GND (power) "Ground Pin", 5 VCC (power) "Power Pin"

## SN74LVC1G80
designator U?
Single Positive-Edge-Triggered D-Type Flip-Flop
footprint SN74LVC1G80-SC70 (SOT23, 5-Leads, Body 2.00x2.10mm, Pitch 0.65mm, IPC Medium Density)
pins: 1 D "Data input", 2 CLK "Positive-Edge-Triggered Clock input", 3 GND "Ground pin", 4 /Q "Inverted output", 5 VCC "Positive Supply"

## SN74LVC2G08
designator U?
Dual 2-Input Positive-AND Gate
footprint SN74LVC2G08DCU-VSSOP8 (TSSOP, 8-Leads, Body 2.00x2.30mm, Pitch 0.50mm, IPC Medium Density)
part A pins: 1 1A, 2 1B, 7 1Y
part B pins: 3 2Y, 5 2A, 6 2B
part C pins: 4 GND (power) "Ground Pin", 8 VCC (power) "Power Pin"

## SN74LVC138A
designator U?
3-Line to 8-Line Decoders Demultiplexers
footprint SN74LVC138APW-TSSOP16 (TSOP, 16-Leads, Body 5.00x4.40mm, Pitch 0.65mm, IPC Medium Density)
pins: 1 A0, 2 A1, 3 A2, 4 ~{OE0}, 5 ~{OE1}, 6 OE2, 7 Y7, 8 GND, 9 Y6, 10 Y5, 11 Y4, 12 Y3, 13 Y2, 14 Y1, 15 Y0, 16 VCC

## SN74LVC573
designator U?
Octal Transparent D-Type Latches With 3-State Outputs
footprint SN74LVC573-TSSOP20 (TSOP, 20-Leads, Body 6.50x4.40mm, Pitch 0.65mm, IPC Medium Density)
pins: 1 ~{OE} "Enable Pin", 2 1D "Input", 3 2D "Input", 4 3D "Input", 5 4D "Input", 6 5D "Input", 7 6D "Input", 8 7D "Input", 9 8D "Input", 10 GND "Ground", 11 LE "Latch Enable", 12 8Q "Output", 13 7Q "Output", 14 6Q "Output", 15 5Q "Output", 16 4Q "Output", 17 3Q "Output", 18 2Q "Output", 19 1Q "Output", 20 VCC "Power Pin"

## SOCKET-40P
designator U?, comment SOCKET-QFN40
Socket 40 pin with ground pin
footprint SOCKET-QFN40 (Yamaichi,NP506-040-026)
pins: 1, 2, 3, 4, 5, 6, 7, 8, 9, 10, 11, 12, 13, 14, 15, 16, 17, 18, 19, 20, 21, 22, 23, 24, 25, 26, 27, 28, 29, 30, 31, 32, 33, 34, 35, 36, 37, 38, 39, 40, 41 EP

## SPX1117
designator U?
800mA Low Dropout Voltage Regulator
footprint SPX1117-SOT223 (SOT-223)
pins: 1 GND, 2 OUT, 3 IN

## SPX3819
designator U?
500mA, Low-Noise LDO Voltage Regulator
footprint SPX3819-SOT-23-5 (SOT23, 5-Leads, Body 2.90x2.80mm, Pitch 0.95mm, IPC Medium Density)
pins: 1 Vin, 2 GND, 3 EN, 4 ADJ/BYP, 5 Vout

## STM8L151G4U6
designator U?
8-bit ultra-low-power MCU, up to 32 KB Flash, 1 KB Data EEPROM,RTC, LCD, timers, USART, I2C, SPI, ADC, DAC, comparators
footprint STM8L151G4U6-UFQFN28 (QFN, 28-Leads, Body 4.00x4.00mm, Pitch 0.50mm, IPC Medium Density)
pins: 1 NRST/PA1, 2 PA2, 3 PA3, 4 PA4, 5 PA5, 6 VSS/VREF-, 7 VDD/VREF+, 8 PD0, 9 PD1, 10 PD2, 11 PD3, 12 PB0, 13 PB1, 14 PB2, 15 PB3, 16 PB4, 17 PB5, 18 PB6, 19 PB7, 20 PD4, 21 PC0, 22 PC1, 23 PC2, 24 PC3, 25 PC4, 26 PC5, 27 PC6, 28 PA0

## STM32F030F4P6
designator U?
ARM Cortex-M0 32-bit MCU, 16 KB Flash, 4 KB Internal RAM, 15 I/Os, 20-pin TSSOP, -40 to 85 degC, Tube; PartNumber: STM32F030F4P6; FLASH Size (Prog) (kB): 16; I/Os (High Current): 15; Internal RAM Size (kB): 4; Operating Frequency(F) (Processor speed) (MHz): 48; Supply Voltage(Vcc) min (V): 2.4; DatasheetVersion: Rev. 1; PackageVersion: Rev. 1, 11/2012; PackageReference: TSSOP20; PackageDescription: 20-Pin Thin Shrink Small Outline Package, 6.5 x 4.4 mm Body, 0.65 mm Pitch; Supplier 1: Digi-Key; Supplier Part Number 1: 497-14044-5-ND; Supplier 2: Newark; Supplier Part Number 2: 06X3648; Supplier 3: Mouser; Supplier Part Number 3: 511-STM32F030F4P6; Core: ARM Cortex-M0; Packing: Tube; Mounting Technology: Surface Mount; ComponentLink1Description: Manufacturer URL; ComponentLink1URL: http://www.st.com/web/en/home.html; ComponentLink2Description: Datasheet; ComponentLink2URL: http://www.st.com/st-web-ui/static/active/en/resource/technical/document/datasheet/DM00088500.pdf; ComponentLink3Description: Package Specification; ComponentLink3URL: http://www.st.com/st-web-ui/static/active/en/resource/technical/document/datasheet/DM00065136.pdf
footprint STM32F030F4P6-TSSOP20 (TSOP, 20-Leads, Body 6.50x4.40mm, Pitch 0.65mm, IPC Medium Density)
pins: 1 BOOT0 "Boot memory selection", 2 PF0-OSC_IN(PF0) "PF0-OSC_IN(PF0)/OSC_IN", 3 PF1-OSC_OUT(PF1) "PF1-OSC_OUT(PF1)/OSC_OUT", 4 NRST "Device reset input / internal reset output (active low)", 5 VDDA "Analog power supply", 6 PA0 "PA0/USART1_CTS/ADC_IN0,RTC_TAMP2,WKUP1", 7 PA1 "PA1/USART1_RTS,EVENTOUT/ADC_IN1", 8 PA2 "PA2/USART1_TX/ADC_IN2", 9 PA3 "PA3/USART1_RX/ADC_IN3", 10 PA4 "PA4/SPI1_NSS,USART1_CK,TIM14_CH1/ADC_IN4", 11 PA5 "PA5/SPI1_SCK/ADC_IN5", 12 PA6 "PA6/SPI1_MISO,TIM3_CH1,TIM1_BKIN,TIM16_CH1,EVENTOUT/ADC_IN6", 13 PA7 "PA7/SPI1_MOSI,TIM3_CH2,TIM14_CH1,TIM1_CH1N,TIM17_CH1,EVENTOUT/ADC_IN7", 14 PB1 "PB1/TIM3_CH4,TIM14_CH1,TIM1_CH3N/ADC_IN9", 15 VSS "Ground", 16 VDD "Digital power supply", 17 PA9 "PA9/USART1_TX,TIM1_CH2,I2C1_SCL", 18 PA10 "PA10/USART1_RX,TIM1_CH3,TIM17_BKIN,I2C1_SDA", 19 PA13(SWDIO) "PA13(SWDIO)/IR_OUT,SWDIO", 20 PA14(SWCLK) "PA14(SWCLK)/USART1_TX,SWCLK"

## STM32F103C8T6
designator U?
ARM Cortex-M3 32-bit MCU, 64 KB Flash, 20 KB Internal RAM, 37 I/Os, 48-pin LQFP, -40 to 85 degC, Tray; A/D Converter: 2x12-bit (10 Channel); FLASH Size (Prog) (kB): 64; I/Os (High Current): 37; Internal RAM Size (kB): 20; Operating Frequency(F) (Processor speed) (MHz): 72; Supply Voltage(Vcc) min (V): 2; DatasheetVersion: Rev. 16; PackageVersion: Rev. 6, 06/2013; PackageReference: LQFP48; PackageDescription: 48-Pin Low Profile Quad Flat Package, 7 x 7 mm Body, 0.5 mm Pitch; Supplier 1: Digi-Key; Supplier Part Number 1: 497-6063-ND; Supplier 2: Farnell; Supplier Part Number 2: 1447637; Supplier 3: Newark; Supplier Part Number 3: 59M2182; Supplier 4: Newark; Supplier Part Number 4: 57P1222; Supplier 5: Mouser; Supplier Part Number 5: 511-STM32F103C8T6; Core: ARM Cortex-M3; Packing: Tray; Mounting Technology: Surface Mount; PartNumber: STM32F103C8T6; ComponentLink1Description: Manufacturer URL; ComponentLink1URL: http://www.st.com/web/en/home.html; ComponentLink2Description: Datasheet; ComponentLink2URL: http://www.st.com/st-web-ui/static/active/en/resource/technical/document/datasheet/CD00161566.pdf; ComponentLink3Description: Package Specification; ComponentLink3URL: http://www.st.com/st-web-ui/static/active/en/resource/technical/document/datasheet/DM00058181.pdf
footprint STM32F103C8T6-LQFP48 (QFP, 48-Leads, Body 7x7mm, Pitch 0.5mm, IPC Medium Density)
footprint STM32F103C8T6-LQFP48+ (QFP, 48-Leads, Body 7x7mm, Pitch 0.5mm, IPC Medium Density)
part A pins: 2 PC13-TAMPER-RTC "PC13-TAMPER-RTC/PC13/TAMPER-RTC", 3 PC14-OSC32_IN "PC14-OSC32_IN/PC14/OSC32_IN", 4 PC15-OSC32_OUT "PC15-OSC32_OUT/PC15/OSC32_OUT", 5 PD0-OSC_IN "PD0/OSC_IN", 6 PD1-OSC_OUT "PD1/OSC_OUT", 7 NRST, 10 PA0-WKUP "PA0-WKUP/PA0/WKUP/USART2_CTS/ADC12_IN0/TIM2_CH1_ETR", 11 PA1 "PA1/USART2_RTS/ADC12_IN1/TIM2_CH2", 12 PA2 "PA2/USART2_TX/ADC12_IN2/TIM2_CH3", 13 PA3 "PA3/USART2_RX/ADC12_IN3/TIM2_CH4", 14 PA4 "PA4/SPI1_NSS/USART2_CK/ADC12_IN4", 15 PA5 "PA5/SPI1_SCK/ADC12_IN5", 16 PA6 "PA6/SPI1_MISO/ADC12_IN6/TIM3_CH1/TIM1_BKIN", 17 PA7 "PA7/SPI1_MOSI/ADC12_IN7/TIM3_CH2/TIM1_CH1N", 18 PB0 "PB0/ADC12_IN8/TIM3_CH3/TIM1_CH2N", 19 PB1 "PB1/ADC12_IN9/TIM3_CH4/TIM1_CH3N", 20 PB2 "PB2/BOOT1", 21 PB10 "PB10/I2C2_SCL/USART3_TX/TIM2_CH3", 22 PB11 "PB11/I2C2_SDA/USART3_RX/TIM2_CH4", 25 PB12 "PB12/SPI2_NSS/I2C2_SMBAl/USART3_CK/TIM1_BKIN", 26 PB13 "PB13/SPI2_SCK/USART3_CTS/TIM1_CH1N", 27 PB14 "PB14/SPI2_MISO/USART3_RTS/TIM1_CH2N", 28 PB15 "PB15/SPI2_MOSI/TIM1_CH3N", 29 PA8 "PA8/USART1_CK/TIM1_CH1/MCO", 30 PA9 "PA9/USART1_TX/TIM1_CH2", 31 PA10 "PA10/USART1_RX/TIM1_CH3", 32 PA11 "PA11/USART1_CTS/CANRX/USBDM/TIM1_CH4", 33 PA12 "PA12/USART1_RTS/CANTX/USBDP/TIM1_ETR", 34 PA13 "PA13/JTMS/SWDIO", 37 PA14 "PA14/JTCK/SWCLK", 38 PA15 "PA15/JTDI/TIM2_CH1_ETR/SPI1_NSS", 39 PB3 "PB3/JTDO/TIM2_CH2/TRACESWO/SPI1_SCK", 40 PB4 "PB4/NJTRST/TIM3_CH1/SPI1_MISO", 41 PB5 "PB5/I2C1_SMBAI/TIM3_CH2/SPI1_MOSI", 42 PB6 "PB6/I2C1_SCL/TIM4_CH1/USART1_TX", 43 PB7 "PB7/I2C1_SDA/TIM4_CH2/USART1_RX", 44 BOOT0, 45 PB8 "PB8/TIM4_CH3/I2C1_SCL/CANRX", 46 PB9 "PB9/TIM4_CH4/I2C1_SDA/CANTX"
part B pins: 1 VBAT, 8 VSSA, 9 VDDA, 23 VSS_1, 24 VDD_1, 35 VSS_2, 36 VDD_2, 47 VSS_3, 48 VDD_3

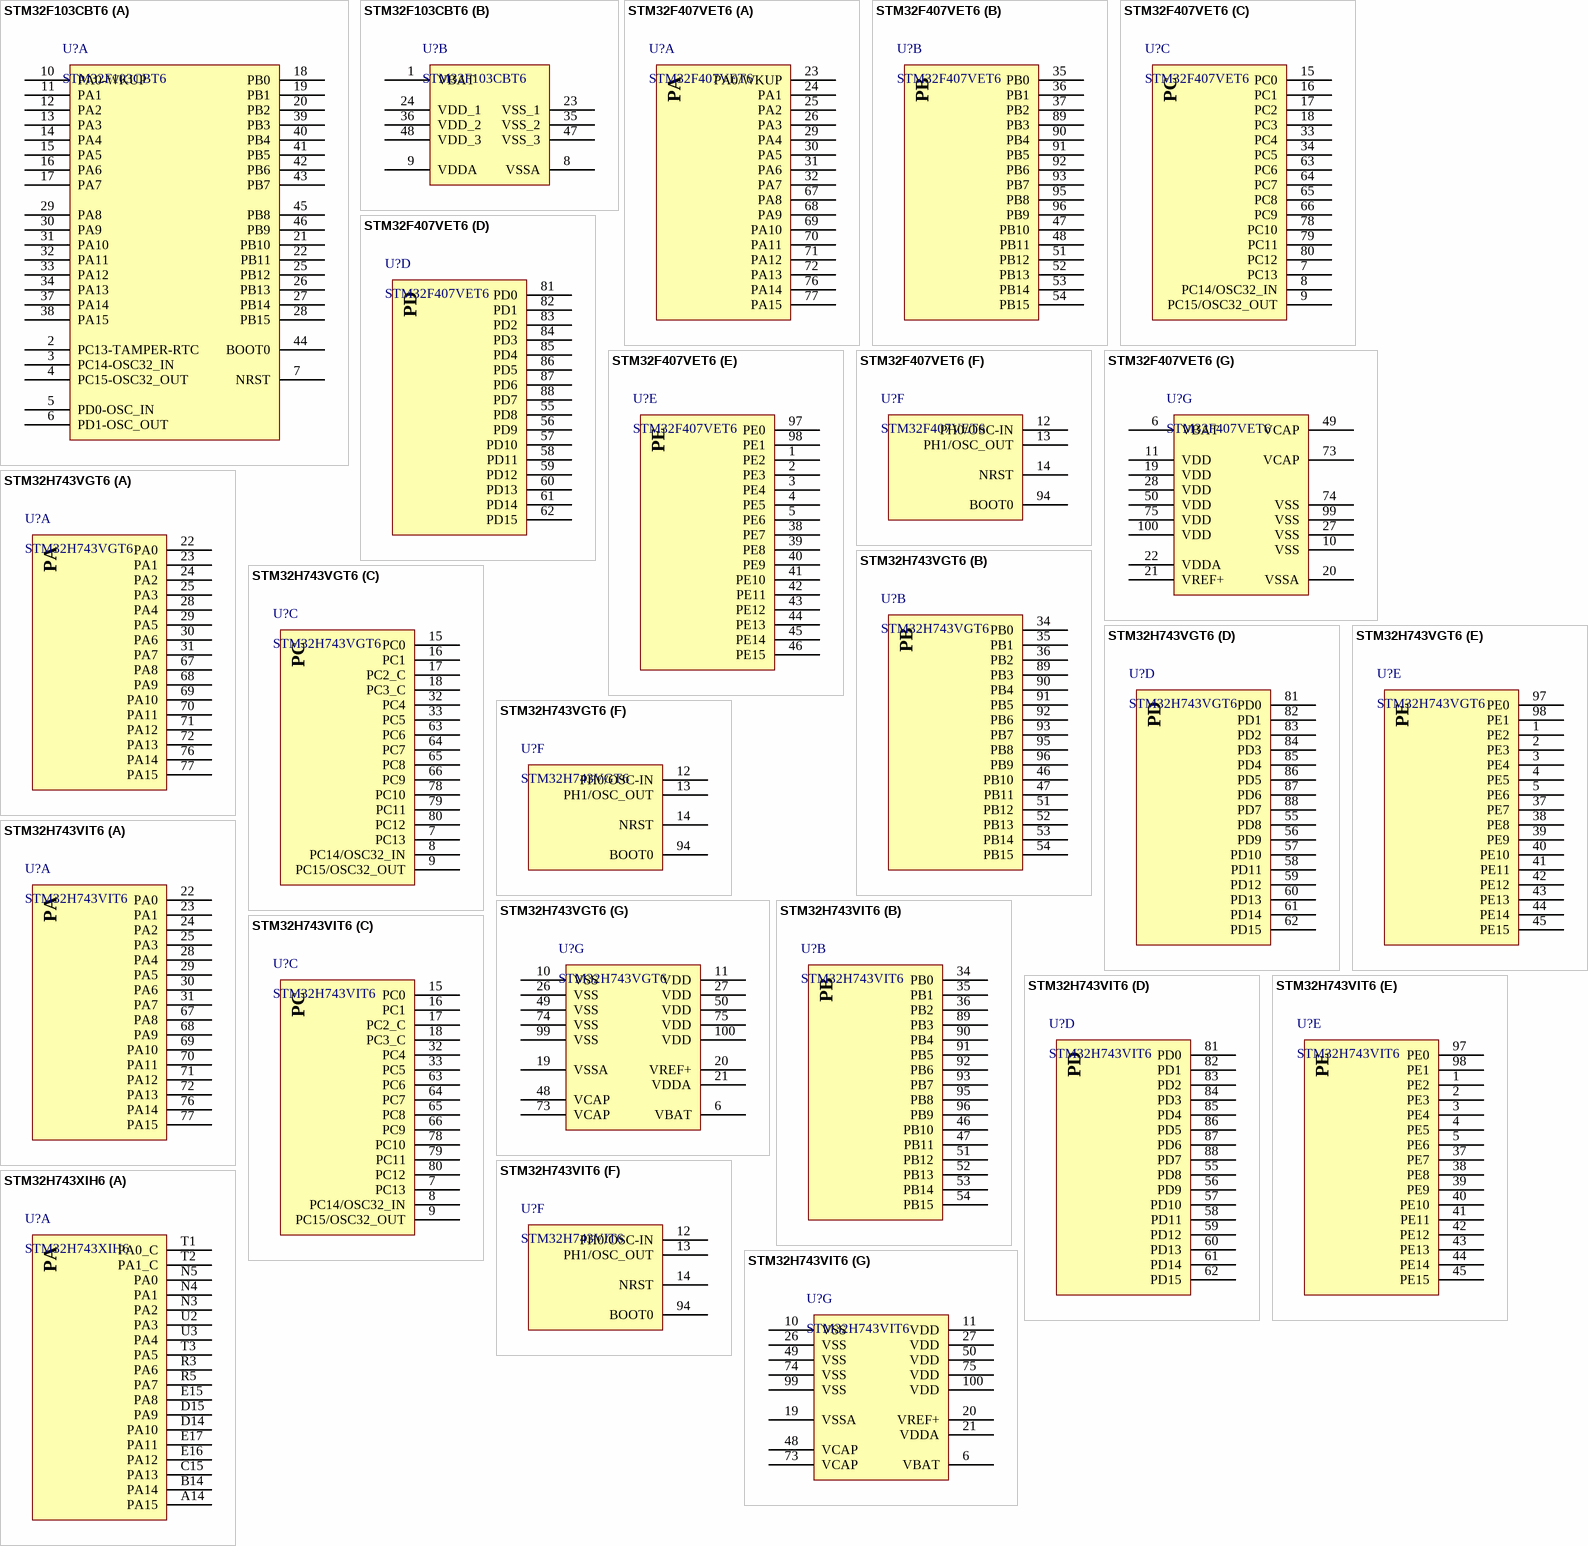
[diagram p11: symbols STM32F103CBT6 to STM32H743XIH6]

## STM32F103CBT6
designator U?
Mainstream Performance line, Arm Cortex-M3 MCU with 128 Kbytes of Flash memory, 72 MHz CPU, motor control, USB and CAN
footprint STM32F103CBT6-LQFP48 (TSQFP, 48-Leads, Body 7.00x7.00mm, Pitch 0.50mm, IPC Medium Density)
footprint STM32F103CBT6-LQFP48+ (TSQFP, 48-Leads, Body 7.00x7.00mm, Pitch 0.50mm, IPC Low Density)
part A pins: 2 PC13-TAMPER-RTC "PC13-TAMPER-RTC/PC13/TAMPER-RTC", 3 PC14-OSC32_IN "PC14-OSC32_IN/PC14/OSC32_IN", 4 PC15-OSC32_OUT "PC15-OSC32_OUT/PC15/OSC32_OUT", 5 PD0-OSC_IN "PD0/OSC_IN", 6 PD1-OSC_OUT "PD1/OSC_OUT", 7 NRST, 10 PA0-WKUP "PA0-WKUP/PA0/WKUP/USART2_CTS/ADC12_IN0/TIM2_CH1_ETR", 11 PA1 "PA1/USART2_RTS/ADC12_IN1/TIM2_CH2", 12 PA2 "PA2/USART2_TX/ADC12_IN2/TIM2_CH3", 13 PA3 "PA3/USART2_RX/ADC12_IN3/TIM2_CH4", 14 PA4 "PA4/SPI1_NSS/USART2_CK/ADC12_IN4", 15 PA5 "PA5/SPI1_SCK/ADC12_IN5", 16 PA6 "PA6/SPI1_MISO/ADC12_IN6/TIM3_CH1/TIM1_BKIN", 17 PA7 "PA7/SPI1_MOSI/ADC12_IN7/TIM3_CH2/TIM1_CH1N", 18 PB0 "PB0/ADC12_IN8/TIM3_CH3/TIM1_CH2N", 19 PB1 "PB1/ADC12_IN9/TIM3_CH4/TIM1_CH3N", 20 PB2 "PB2/BOOT1", 21 PB10 "PB10/I2C2_SCL/USART3_TX/TIM2_CH3", 22 PB11 "PB11/I2C2_SDA/USART3_RX/TIM2_CH4", 25 PB12 "PB12/SPI2_NSS/I2C2_SMBAl/USART3_CK/TIM1_BKIN", 26 PB13 "PB13/SPI2_SCK/USART3_CTS/TIM1_CH1N", 27 PB14 "PB14/SPI2_MISO/USART3_RTS/TIM1_CH2N", 28 PB15 "PB15/SPI2_MOSI/TIM1_CH3N", 29 PA8 "PA8/USART1_CK/TIM1_CH1/MCO", 30 PA9 "PA9/USART1_TX/TIM1_CH2", 31 PA10 "PA10/USART1_RX/TIM1_CH3", 32 PA11 "PA11/USART1_CTS/CANRX/USBDM/TIM1_CH4", 33 PA12 "PA12/USART1_RTS/CANTX/USBDP/TIM1_ETR", 34 PA13 "PA13/JTMS/SWDIO", 37 PA14 "PA14/JTCK/SWCLK", 38 PA15 "PA15/JTDI/TIM2_CH1_ETR/SPI1_NSS", 39 PB3 "PB3/JTDO/TIM2_CH2/TRACESWO/SPI1_SCK", 40 PB4 "PB4/NJTRST/TIM3_CH1/SPI1_MISO", 41 PB5 "PB5/I2C1_SMBAI/TIM3_CH2/SPI1_MOSI", 42 PB6 "PB6/I2C1_SCL/TIM4_CH1/USART1_TX", 43 PB7 "PB7/I2C1_SDA/TIM4_CH2/USART1_RX", 44 BOOT0, 45 PB8 "PB8/TIM4_CH3/I2C1_SCL/CANRX", 46 PB9 "PB9/TIM4_CH4/I2C1_SDA/CANTX"
part B pins: 1 VBAT, 8 VSSA, 9 VDDA, 23 VSS_1, 24 VDD_1, 35 VSS_2, 36 VDD_2, 47 VSS_3, 48 VDD_3

## STM32F407VET6
designator U?
Arm® Cortex®-M4 32b MCU+FPU, 210DMIPS, up to 1MB Flash/192+4KB RAM,USB OTG HS/FS, Ethernet, 17 TIMs, 3 ADCs, 15 comm. interfaces & camera
footprint STM32F407VET6-LQFP100 (TSQFP, 100-Leads, Body 14.00x14.00mm, Pitch 0.50mm, IPC Medium Density)
footprint STM32F407VET6-LQFP100+ (TSQFP, 100-Leads, Body 14.00x14.00mm, Pitch 0.50mm, IPC Low Density)
part A pins: 23 PA0/WKUP, 24 PA1, 25 PA2, 26 PA3, 29 PA4, 30 PA5, 31 PA6, 32 PA7, 67 PA8, 68 PA9, 69 PA10, 70 PA11, 71 PA12, 72 PA13, 76 PA14, 77 PA15
part B pins: 35 PB0, 36 PB1, 37 PB2, 47 PB10, 48 PB11, 51 PB12, 52 PB13, 53 PB14, 54 PB15, 89 PB3, 90 PB4, 91 PB5, 92 PB6, 93 PB7, 95 PB8, 96 PB9
part C pins: 7 PC13, 8 PC14/OSC32_IN, 9 PC15/OSC32_OUT, 15 PC0, 16 PC1, 17 PC2, 18 PC3, 33 PC4, 34 PC5, 63 PC6, 64 PC7, 65 PC8, 66 PC9, 78 PC10, 79 PC11, 80 PC12
part D pins: 55 PD8, 56 PD9, 57 PD10, 58 PD11, 59 PD12, 60 PD13, 61 PD14, 62 PD15, 81 PD0, 82 PD1, 83 PD2, 84 PD3, 85 PD4, 86 PD5, 87 PD6, 88 PD7
part E pins: 1 PE2, 2 PE3, 3 PE4, 4 PE5, 5 PE6, 38 PE7, 39 PE8, 40 PE9, 41 PE10, 42 PE11, 43 PE12, 44 PE13, 45 PE14, 46 PE15, 97 PE0, 98 PE1
part F pins: 12 PH0/OSC-IN, 13 PH1/OSC_OUT, 14 NRST, 94 BOOT0
part G pins: 6 VBAT, 10 VSS, 11 VDD, 19 VDD, 20 VSSA, 21 VREF+, 22 VDDA, 27 VSS, 28 VDD, 49 VCAP, 50 VDD, 73 VCAP, 74 VSS, 75 VDD, 99 VSS, 100 VDD
part A text: PA
part B text: PB
part C text: PC
part D text: PD
part E text: PE

## STM32H743VGT6
designator U?
High-performance and DSP with DP-FPU, Arm Cortex-M7 MCU with 1MBytes of Flash memory, 1MB RAM, 480 MHz CPU, L1 cache, external memory interface, JPEG codec, large set of peripherals
footprint STM32H743VGT6-LQFP100 (TSQFP, 100-Leads, Body 14.00x14.00mm, Pitch 0.50mm, IPC Medium Density)
footprint STM32H743VGT6-LQFP100+ (TSQFP, 100-Leads, Body 14.00x14.00mm, Pitch 0.50mm, IPC Low Density)
part A pins: 22 PA0, 23 PA1, 24 PA2, 25 PA3, 28 PA4, 29 PA5, 30 PA6, 31 PA7, 67 PA8, 68 PA9, 69 PA10, 70 PA11, 71 PA12, 72 PA13, 76 PA14, 77 PA15
part B pins: 34 PB0, 35 PB1, 36 PB2, 46 PB10, 47 PB11, 51 PB12, 52 PB13, 53 PB14, 54 PB15, 89 PB3, 90 PB4, 91 PB5, 92 PB6, 93 PB7, 95 PB8, 96 PB9
part C pins: 7 PC13, 8 PC14/OSC32_IN, 9 PC15/OSC32_OUT, 15 PC0, 16 PC1, 17 PC2_C, 18 PC3_C, 32 PC4, 33 PC5, 63 PC6, 64 PC7, 65 PC8, 66 PC9, 78 PC10, 79 PC11, 80 PC12
part D pins: 55 PD8, 56 PD9, 57 PD10, 58 PD11, 59 PD12, 60 PD13, 61 PD14, 62 PD15, 81 PD0, 82 PD1, 83 PD2, 84 PD3, 85 PD4, 86 PD5, 87 PD6, 88 PD7
part E pins: 1 PE2, 2 PE3, 3 PE4, 4 PE5, 5 PE6, 37 PE7, 38 PE8, 39 PE9, 40 PE10, 41 PE11, 42 PE12, 43 PE13, 44 PE14, 45 PE15, 97 PE0, 98 PE1
part F pins: 12 PH0/OSC-IN, 13 PH1/OSC_OUT, 14 NRST, 94 BOOT0
part G pins: 6 VBAT, 10 VSS, 11 VDD, 19 VSSA, 20 VREF+, 21 VDDA, 26 VSS, 27 VDD, 48 VCAP, 49 VSS, 50 VDD, 73 VCAP, 74 VSS, 75 VDD, 99 VSS, 100 VDD
part A text: PA
part B text: PB
part C text: PC
part D text: PD
part E text: PE

## STM32H743VIT6
designator U?
High-performance and DSP with DP-FPU, Arm Cortex-M7 MCU with 2MBytes of Flash memory, 1MB RAM, 480 MHz CPU, Art Accelerator, L1 cache, external memory interface, large set of peripherals
footprint STM32H743VIT6-LQFP100 (TSQFP, 100-Leads, Body 14.00x14.00mm, Pitch 0.50mm, IPC Medium Density)
footprint STM32H743VIT6-LQFP100+ (TSQFP, 100-Leads, Body 14.00x14.00mm, Pitch 0.50mm, IPC Low Density)
part A pins: 22 PA0, 23 PA1, 24 PA2, 25 PA3, 28 PA4, 29 PA5, 30 PA6, 31 PA7, 67 PA8, 68 PA9, 69 PA10, 70 PA11, 71 PA12, 72 PA13, 76 PA14, 77 PA15
part B pins: 34 PB0, 35 PB1, 36 PB2, 46 PB10, 47 PB11, 51 PB12, 52 PB13, 53 PB14, 54 PB15, 89 PB3, 90 PB4, 91 PB5, 92 PB6, 93 PB7, 95 PB8, 96 PB9
part C pins: 7 PC13, 8 PC14/OSC32_IN, 9 PC15/OSC32_OUT, 15 PC0, 16 PC1, 17 PC2_C, 18 PC3_C, 32 PC4, 33 PC5, 63 PC6, 64 PC7, 65 PC8, 66 PC9, 78 PC10, 79 PC11, 80 PC12
part D pins: 55 PD8, 56 PD9, 57 PD10, 58 PD11, 59 PD12, 60 PD13, 61 PD14, 62 PD15, 81 PD0, 82 PD1, 83 PD2, 84 PD3, 85 PD4, 86 PD5, 87 PD6, 88 PD7
part E pins: 1 PE2, 2 PE3, 3 PE4, 4 PE5, 5 PE6, 37 PE7, 38 PE8, 39 PE9, 40 PE10, 41 PE11, 42 PE12, 43 PE13, 44 PE14, 45 PE15, 97 PE0, 98 PE1
part F pins: 12 PH0/OSC-IN, 13 PH1/OSC_OUT, 14 NRST, 94 BOOT0
part G pins: 6 VBAT, 10 VSS, 11 VDD, 19 VSSA, 20 VREF+, 21 VDDA, 26 VSS, 27 VDD, 48 VCAP, 49 VSS, 50 VDD, 73 VCAP, 74 VSS, 75 VDD, 99 VSS, 100 VDD
part A text: PA
part B text: PB
part C text: PC
part D text: PD
part E text: PE

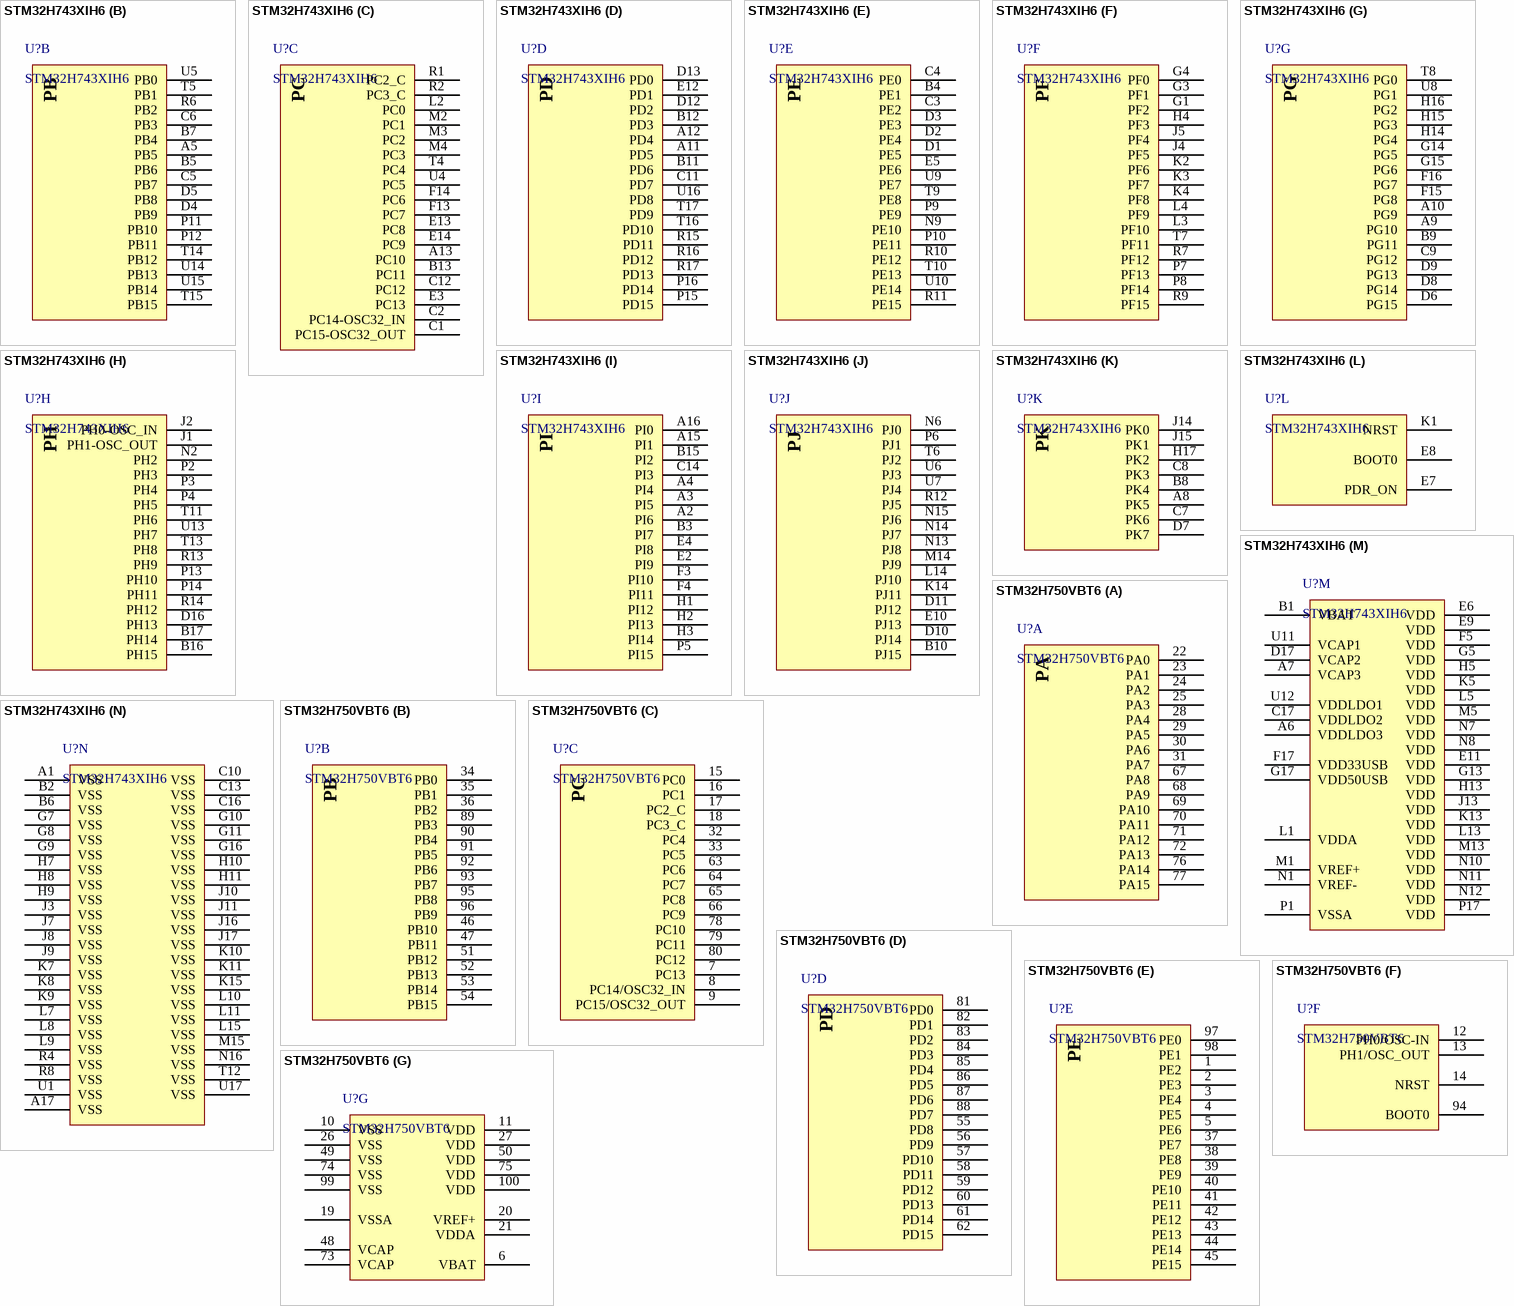
[diagram p12: symbols STM32H743XIH6 to STM32H750VBT6]

## STM32H743XIH6
designator U?
32-bit Arm® Cortex®-M7 480MHz MCUs, up to 2MB Flash,up to 1MB RAM, 46 com. and analog interfaces
footprint STM32H743XIH6-TFBGA240+25
part A pins: A14 PA15, B14 PA14, C15 PA13, D14 PA10, D15 PA9, E15 PA8, E16 PA12, E17 PA11, N3 PA2, N4 PA1, N5 PA0, R3 PA6, R5 PA7, T1 PA0_C, T2 PA1_C, T3 PA5, U2 PA3, U3 PA4
part B pins: A5 PB5, B5 PB6, B7 PB4, C5 PB7, C6 PB3, D4 PB9, D5 PB8, P11 PB10, P12 PB11, R6 PB2, T5 PB1, T14 PB12, T15 PB15, U5 PB0, U14 PB13, U15 PB14
part C pins: A13 PC10, B13 PC11, C1 PC15-OSC32_OUT, C2 PC14-OSC32_IN, C12 PC12, E3 PC13, E13 PC8, E14 PC9, F13 PC7, F14 PC6, L2 PC0, M2 PC1, M3 PC2, M4 PC3, R1 PC2_C, R2 PC3_C, T4 PC4, U4 PC5
part D pins: A11 PD5, A12 PD4, B11 PD6, B12 PD3, C11 PD7, D12 PD2, D13 PD0, E12 PD1, P15 PD15, P16 PD14, R15 PD11, R16 PD12, R17 PD13, T16 PD10, T17 PD9, U16 PD8
part E pins: B4 PE1, C3 PE2, C4 PE0, D1 PE5, D2 PE4, D3 PE3, E5 PE6, N9 PE10, P9 PE9, P10 PE11, R10 PE12, R11 PE15, T9 PE8, T10 PE13, U9 PE7, U10 PE14
part F pins: G1 PF2, G3 PF1, G4 PF0, H4 PF3, J4 PF5, J5 PF4, K2 PF6, K3 PF7, K4 PF8, L3 PF10, L4 PF9, P7 PF13, P8 PF14, R7 PF12, R9 PF15, T7 PF11
part G pins: A9 PG10, A10 PG9, B9 PG11, C9 PG12, D6 PG15, D8 PG14, D9 PG13, F15 PG8, F16 PG7, G14 PG5, G15 PG6, H14 PG4, H15 PG3, H16 PG2, T8 PG0, U8 PG1
part H pins: B16 PH15, B17 PH14, D16 PH13, J1 PH1-OSC_OUT, J2 PH0-OSC_IN, N2 PH2, P2 PH3, P3 PH4, P4 PH5, P13 PH10, P14 PH11, R13 PH9, R14 PH12, T11 PH6, T13 PH8, U13 PH7
part I pins: A2 PI6, A3 PI5, A4 PI4, A15 PI1, A16 PI0, B3 PI7, B15 PI2, C14 PI3, E2 PI9, E4 PI8, F3 PI10, F4 PI11, H1 PI12, H2 PI13, H3 PI14, P5 PI15
part J pins: B10 PJ15, D10 PJ14, D11 PJ12, E10 PJ13, K14 PJ11, L14 PJ10, M14 PJ9, N6 PJ0, N13 PJ8, N14 PJ7, N15 PJ6, P6 PJ1, R12 PJ5, T6 PJ2, U6 PJ3, U7 PJ4
part K pins: A8 PK5, B8 PK4, C7 PK6, C8 PK3, D7 PK7, H17 PK2, J14 PK0, J15 PK1
part L pins: E7 PDR_ON, E8 BOOT0, K1 NRST
part M pins: A6 VDDLDO3 (power), A7 VCAP3, B1 VBAT (power), C17 VDDLDO2 (power), D17 VCAP2, E6 VDD (power), E9 VDD (power), E11 VDD (power), F5 VDD (power), F17 VDD33USB (power), G5 VDD (power), G13 VDD (power), G17 VDD50USB (power), H5 VDD (power), H13 VDD (power), J13 VDD (power), K5 VDD (power), K13 VDD (power), L1 VDDA (power), L5 VDD (power), L13 VDD (power), M1 VREF+ (power), M5 VDD (power), M13 VDD (power), N1 VREF- (power), N7 VDD (power), N8 VDD (power), N10 VDD (power), N11 VDD (power), N12 VDD (power), P1 VSSA (power), P17 VDD (power), U11 VCAP1, U12 VDDLDO1 (power)
part N pins: A1 VSS (power), A17 VSS (power), B2 VSS (power), B6 VSS (power), C10 VSS (power), C13 VSS (power), C16 VSS (power), G7 VSS (power), G8 VSS (power), G9 VSS (power), G10 VSS (power), G11 VSS (power), G16 VSS (power), H7 VSS (power), H8 VSS (power), H9 VSS (power), H10 VSS (power), H11 VSS (power), J3 VSS (power), J7 VSS (power), J8 VSS (power), J9 VSS (power), J10 VSS (power), J11 VSS (power), J16 VSS (power), J17 VSS (power), K7 VSS (power), K8 VSS (power), K9 VSS (power), K10 VSS (power), K11 VSS (power), K15 VSS (power), L7 VSS (power), L8 VSS (power), L9 VSS (power), L10 VSS (power), L11 VSS (power), L15 VSS (power), M15 VSS (power), N16 VSS (power), R4 VSS (power), R8 VSS (power), T12 VSS (power), U1 VSS (power), U17 VSS (power)
part A text: PA
part B text: PB
part C text: PC
part D text: PD
part E text: PE
part F text: PF
part G text: PG
part H text: PH
part I text: PI
part J text: PJ
part K text: PK

## STM32H750VBT6
designator U?
High-performance and DSP with DP-FPU, Arm Cortex-M7 MCU with 128 Kbytes of Flash memory, 1MB RAM, 480 MHz CPU, L1 cache, external memory interface, JPEG codec, HW crypto, large set of peripherals
footprint STM32H750VBT6-LQFP100 (TSQFP, 100-Leads, Body 14.00x14.00mm, Pitch 0.50mm, IPC Medium Density)
footprint STM32H750VBT6-LQFP100+ (TSQFP, 100-Leads, Body 14.00x14.00mm, Pitch 0.50mm, IPC Low Density)
part A pins: 22 PA0, 23 PA1, 24 PA2, 25 PA3, 28 PA4, 29 PA5, 30 PA6, 31 PA7, 67 PA8, 68 PA9, 69 PA10, 70 PA11, 71 PA12, 72 PA13, 76 PA14, 77 PA15
part B pins: 34 PB0, 35 PB1, 36 PB2, 46 PB10, 47 PB11, 51 PB12, 52 PB13, 53 PB14, 54 PB15, 89 PB3, 90 PB4, 91 PB5, 92 PB6, 93 PB7, 95 PB8, 96 PB9
part C pins: 7 PC13, 8 PC14/OSC32_IN, 9 PC15/OSC32_OUT, 15 PC0, 16 PC1, 17 PC2_C, 18 PC3_C, 32 PC4, 33 PC5, 63 PC6, 64 PC7, 65 PC8, 66 PC9, 78 PC10, 79 PC11, 80 PC12
part D pins: 55 PD8, 56 PD9, 57 PD10, 58 PD11, 59 PD12, 60 PD13, 61 PD14, 62 PD15, 81 PD0, 82 PD1, 83 PD2, 84 PD3, 85 PD4, 86 PD5, 87 PD6, 88 PD7
part E pins: 1 PE2, 2 PE3, 3 PE4, 4 PE5, 5 PE6, 37 PE7, 38 PE8, 39 PE9, 40 PE10, 41 PE11, 42 PE12, 43 PE13, 44 PE14, 45 PE15, 97 PE0, 98 PE1
part F pins: 12 PH0/OSC-IN, 13 PH1/OSC_OUT, 14 NRST, 94 BOOT0
part G pins: 6 VBAT, 10 VSS, 11 VDD, 19 VSSA, 20 VREF+, 21 VDDA, 26 VSS, 27 VDD, 48 VCAP, 49 VSS, 50 VDD, 73 VCAP, 74 VSS, 75 VDD, 99 VSS, 100 VDD
part A text: PA
part B text: PB
part C text: PC
part D text: PD
part E text: PE

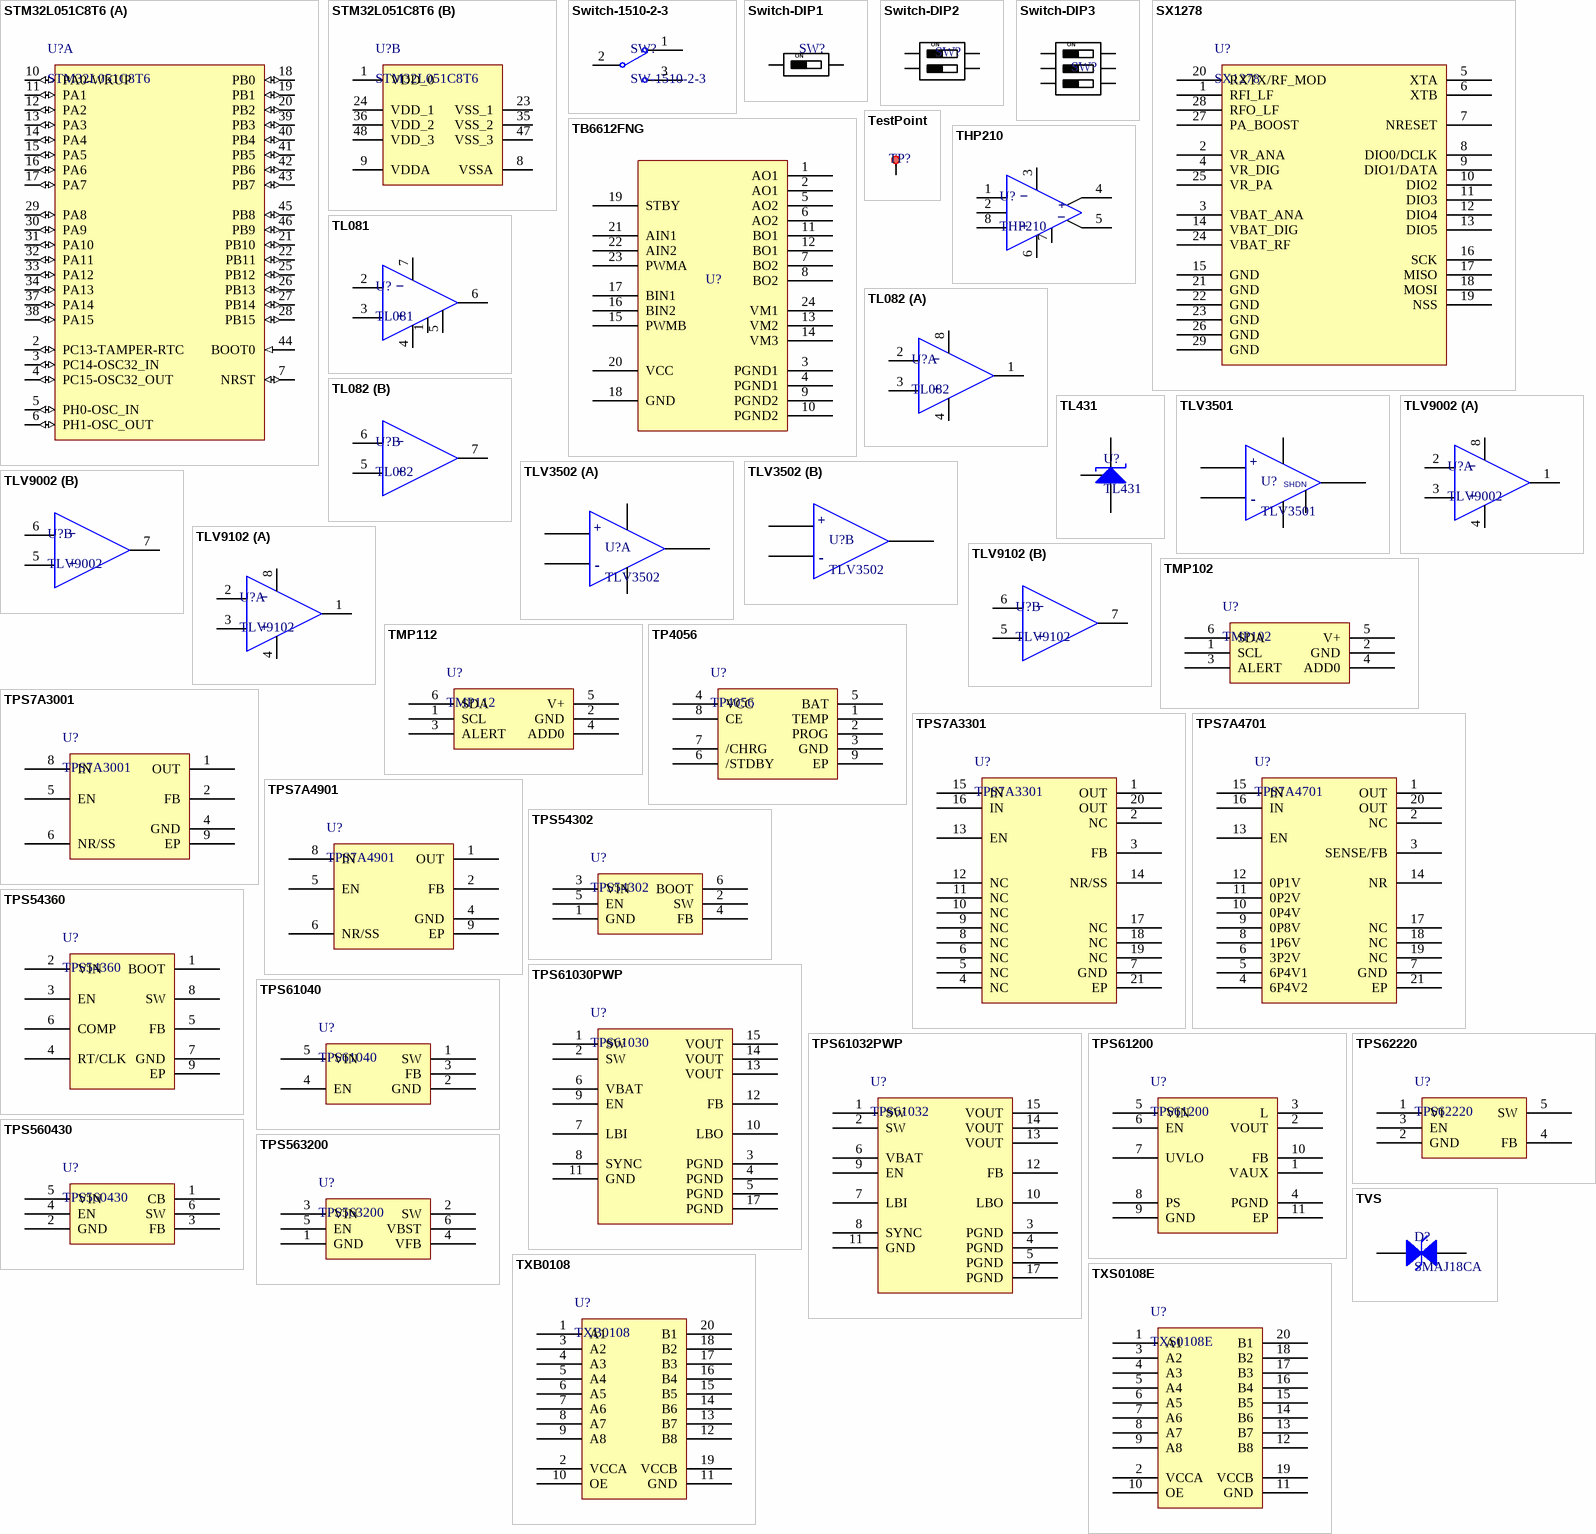
[diagram p13: symbols STM32L051C8T6 to TXS0108E]

## STM32L051C8T6
designator U?
Access line ultra-low-power 32-bit MCU Arm®-based Cortex®-M0+,up to 64 KB Flash, 8 KB SRAM, 2 KB EEPROM, ADC
footprint STM32L051C8T6-LQFP48 (TSQFP, 48-Leads, Body 7.00x7.00mm, Pitch 0.50mm, IPC Medium Density)
part A pins: 2 PC13-TAMPER-RTC (io) "PC13-TAMPER-RTC/PC13/TAMPER-RTC", 3 PC14-OSC32_IN (io) "PC14-OSC32_IN/PC14/OSC32_IN", 4 PC15-OSC32_OUT (io) "PC15-OSC32_OUT/PC15/OSC32_OUT", 5 PH0-OSC_IN (io) "PH0/OSC_IN", 6 PH1-OSC_OUT (io) "PH1/OSC_OUT", 7 NRST (io), 10 PA0-WKUP (io) "PA0-WKUP/PA0/WKUP/USART2_CTS/ADC12_IN0/TIM2_CH1_ETR", 11 PA1 (io) "PA1/USART2_RTS/ADC12_IN1/TIM2_CH2", 12 PA2 (io) "PA2/USART2_TX/ADC12_IN2/TIM2_CH3", 13 PA3 (io) "PA3/USART2_RX/ADC12_IN3/TIM2_CH4", 14 PA4 (io) "PA4/SPI1_NSS/USART2_CK/ADC12_IN4", 15 PA5 (io) "PA5/SPI1_SCK/ADC12_IN5", 16 PA6 (io) "PA6/SPI1_MISO/ADC12_IN6/TIM3_CH1/TIM1_BKIN", 17 PA7 (io) "PA7/SPI1_MOSI/ADC12_IN7/TIM3_CH2/TIM1_CH1N", 18 PB0 (io) "PB0/ADC12_IN8/TIM3_CH3/TIM1_CH2N", 19 PB1 (io) "PB1/ADC12_IN9/TIM3_CH4/TIM1_CH3N", 20 PB2 (io) "PB2/BOOT1", 21 PB10 (io) "PB10/I2C2_SCL/USART3_TX/TIM2_CH3", 22 PB11 (io) "PB11/I2C2_SDA/USART3_RX/TIM2_CH4", 25 PB12 (io) "PB12/SPI2_NSS/I2C2_SMBAl/USART3_CK/TIM1_BKIN", 26 PB13 (io) "PB13/SPI2_SCK/USART3_CTS/TIM1_CH1N", 27 PB14 (io) "PB14/SPI2_MISO/USART3_RTS/TIM1_CH2N", 28 PB15 (io) "PB15/SPI2_MOSI/TIM1_CH3N", 29 PA8 (io) "PA8/USART1_CK/TIM1_CH1/MCO", 30 PA9 (io) "PA9/USART1_TX/TIM1_CH2", 31 PA10 (io) "PA10/USART1_RX/TIM1_CH3", 32 PA11 (io) "PA11/USART1_CTS/CANRX/USBDM/TIM1_CH4", 33 PA12 (io) "PA12/USART1_RTS/CANTX/USBDP/TIM1_ETR", 34 PA13 (io) "PA13/JTMS/SWDIO", 37 PA14 (io) "PA14/JTCK/SWCLK", 38 PA15 (io) "PA15/JTDI/TIM2_CH1_ETR/SPI1_NSS", 39 PB3 (io) "PB3/JTDO/TIM2_CH2/TRACESWO/SPI1_SCK", 40 PB4 (io) "PB4/NJTRST/TIM3_CH1/SPI1_MISO", 41 PB5 (io) "PB5/I2C1_SMBAI/TIM3_CH2/SPI1_MOSI", 42 PB6 (io) "PB6/I2C1_SCL/TIM4_CH1/USART1_TX", 43 PB7 (io) "PB7/I2C1_SDA/TIM4_CH2/USART1_RX", 44 BOOT0 (in), 45 PB8 (io) "PB8/TIM4_CH3/I2C1_SCL/CANRX", 46 PB9 (io) "PB9/TIM4_CH4/I2C1_SDA/CANTX"
part B pins: 1 VDD_0 (power), 8 VSSA (power), 9 VDDA (power), 23 VSS_1 (power), 24 VDD_1 (power), 35 VSS_2 (power), 36 VDD_2 (power), 47 VSS_3 (power), 48 VDD_3 (power)

## Switch-1510-2-3
designator SW?, comment SW-1510-2-3
船型开关, 15*10mm, 2档3脚
footprint SW-1510-2-3 (船型开关, 15*10mm, 2档3脚)
pins: 1, 2, 3

## Switch-DIP1
designator SW?, comment SW-DIP1  (value not drawn)
footprint SW-DIP1
pins: 1, 2
text: ON

## Switch-DIP2
designator SW?, comment SW-DIP2  (value not drawn)
footprint SW-SMT2-2.54
pins: 1, 2, 3, 4
text: ON

## Switch-DIP3
designator SW?, comment SW-DIP3  (value not drawn)
footprint SW-SMT3-1.27 (SOIC, 6-Leads, Body 5.41x5.40mm, Pitch 1.27mm, IPC Medium Density)
pins: 1, 2, 3, 4, 5, 6
text: ON

## SX1278
designator U?
Low Power Long Range Transceiver
footprint SX1278-QFN28 (QFN, 28-Leads, Body 6.00x6.00mm, Pitch 0.65mm, Thermal Pad 4.78x4.78mm, IPC Medium Density)
pins: 1 RFI_LF "RF input for bands 2&3", 2 VR_ANA "Regulated supply voltage for analogue circuitry", 3 VBAT_ANA "Supply voltage for analogue circuitry", 4 VR_DIG "Regulated supply voltage for digital blocks", 5 XTA "XTAL connection or TCXO input", 6 XTB "XTAL connection", 7 NRESET "Reset trigger input", 8 DIO0/DCLK "Digital I/O, software configured", 9 DIO1/DATA "Digital I/O, software configured", 10 DIO2 "Digital I/O, software configured", 11 DIO3 "Digital I/O, software configured", 12 DIO4 "Digital I/O, software configured", 13 DIO5 "Digital I/O, software configured", 14 VBAT_DIG "Supply voltage for digital blocks", 15 GND "Ground", 16 SCK "SPI Clock input", 17 MISO "SPI Data output", 18 MOSI "SPI Data input", 19 NSS "SPI Chip select input", 20 RXTX/RF_MOD "Rx/Tx switch control: high in Tx", 21 GND "Ground", 22 GND "Ground", 23 GND "Ground", 24 VBAT_RF "Supply voltage for RF blocks", 25 VR_PA "Regulated supply for the PA", 26 GND "Ground", 27 PA_BOOST "Optional high-power PA output, all frequency bands", 28 RFO_LF "RF output for bands 2&3", 29 GND "Exposed ground pad"

## TB6612FNG
designator U?  (value not drawn)
Driver IC for Dual DC motor
footprint TB6612FNG-SSOP24 (TSOP, 24-Leads, Body 7.80x5.60mm, Pitch 0.65mm, IPC Medium Density)
pins: 1 AO1 "ch A output 1", 2 AO1 "ch A output 1", 3 PGND1 "Power GND 1", 4 PGND1 "Power GND 1", 5 AO2 "ch A output 2", 6 AO2 "ch A output 2", 7 BO2 "ch B output 2", 8 BO2 "ch B output 2", 9 PGND2 "Power GND 2", 10 PGND2 "Power GND 2", 11 BO1 "ch B output 1", 12 BO1 "ch B output 1", 13 VM2 "Motor supply", 14 VM3 "Motor supply", 15 PWMB "ch B PWM input/200 kΩ pull-down at internal", 16 BIN2 "ch B input 2/200 kΩ pull-down at internal", 17 BIN1 "ch B input 1/200 kΩ pull-down at internal", 18 GND "Small signal GND", 19 STBY "“L” = standby/200 kΩ pull-down at internal", 20 VCC "Small signal supply", 21 AIN1 "ch A input 1/200 kΩ pull-down at internal", 22 AIN2 "ch A input 2/200 kΩ pull-down at internal", 23 PWMA "ch A PWM input/200 kΩ pull-down at internal", 24 VM1 "Motor supply"

## TestPoint
designator TP?  (value not drawn)
测试点
footprint TestPoint-HDR1
footprint TestPoint-SMD30
footprint TestPoint-SMD50
footprint TestPoint-SMD75
footprint TestPoint-SMD100
footprint TestPoint-THM1.0-L
footprint TestPoint-THM1.6-H
footprint TestPoint-THM1.6-M
pins: 1

## THP210
designator U?
THP210 Ultra-Low Offset, High-Voltage, Low-Noise, Precision, Fully-Differential Amplifier
footprint THP210-VSSOP8 (TSOP, 8-Leads, Body 3.00x3.00mm, Pitch 0.65mm, IPC Medium Density)
pins: 1 -IN "Inverting (negative) amplifier input", 2 VOCM "Ouput common-mode voltage control input", 3 +Vs "Positive power-supply input", 4 OUT+ "Noninverting (positive) amplifier output", 5 OUT- "Inverting (negative) amplifier output", 6 -Vs "Negative power-supply input", 7 ~{PD} "Power down.", 8 +IN "Noninverting (positive) amplifier input"
text: –; +

## TL081
designator U?
TL08xx FET-Input Operational Amplifiers
footprint TL081-SOIC8 (SOIC, 8-Leads, Body 4.90x3.90mm, Pitch 1.27mm, IPC Medium Density)
pins: 1 OFFSET NULL, 2 -IN, 3 +IN, 4 -Vs, 5 OFFSET NULL, 6 OUTPUT, 7 +Vs
text: –; +

## TL082
designator U?
TL08xx FET-Input Operational Amplifiers
footprint TL082-SOIC8 (SOIC, 8-Leads, Body 4.90x3.90mm, Pitch 1.27mm, IPC Medium Density)
part A pins: 1 OUT A, 2 -IN A, 3 +IN A, 4 -Vs, 8 +Vs
part B pins: 5 +IN B, 6 -IN B, 7 OUT B
part A text: –; +
part B text: –; +

## TL431
designator U?
精密可编程基准
footprint TL431-SOIC-8 (SOIC, 8-Leads, Body 4.90x3.90mm, Pitch 1.27mm, IPC Medium Density)
pins: 1 Cathode, 2 Anode, 8 Ref

## TLV3501
designator U?
TLV350x 4.5-ns, Rail-to-Rail, High-Speed Comparator in Microsize Packages
footprint TLV3501-SOIC-8
pins: 2 -IN, 3 +IN, 4 V-, 6 OUT, 7 V+, 8 SHDN
text: +; -

## TLV3502
designator U?
TLV350x 4.5-ns, Rail-to-Rail, High-Speed Comparator in Microsize Packages
footprint TLV3502-SOIC-8
part A pins: 1 +IN A, 2 -IN A, 5 V-, 7 OUT A, 8 V+
part B pins: 3 +IN B, 4 -IN B, 6 OUT B
part A text: +; -
part B text: +; -

## TLV9002
designator U?
TLV900x Low-Power, RRIO, 1-MHz Operational Amplifier for Cost-Sensitive Systems
footprint TLV9002-SOIC-8 (SOIC, 8-Leads, Body 4.90x3.90mm, Pitch 1.27mm, IPC Medium Density)
part A pins: 1 OUT A, 2 -IN A, 3 +IN A, 4 -Vs, 8 +Vs
part B pins: 5 +IN B, 6 -IN B, 7 OUT B
part A text: –; +
part B text: –; +